# Altium integrated library Altera FLEX 8000.IntLib: 65 symbols (part 4 of 5)
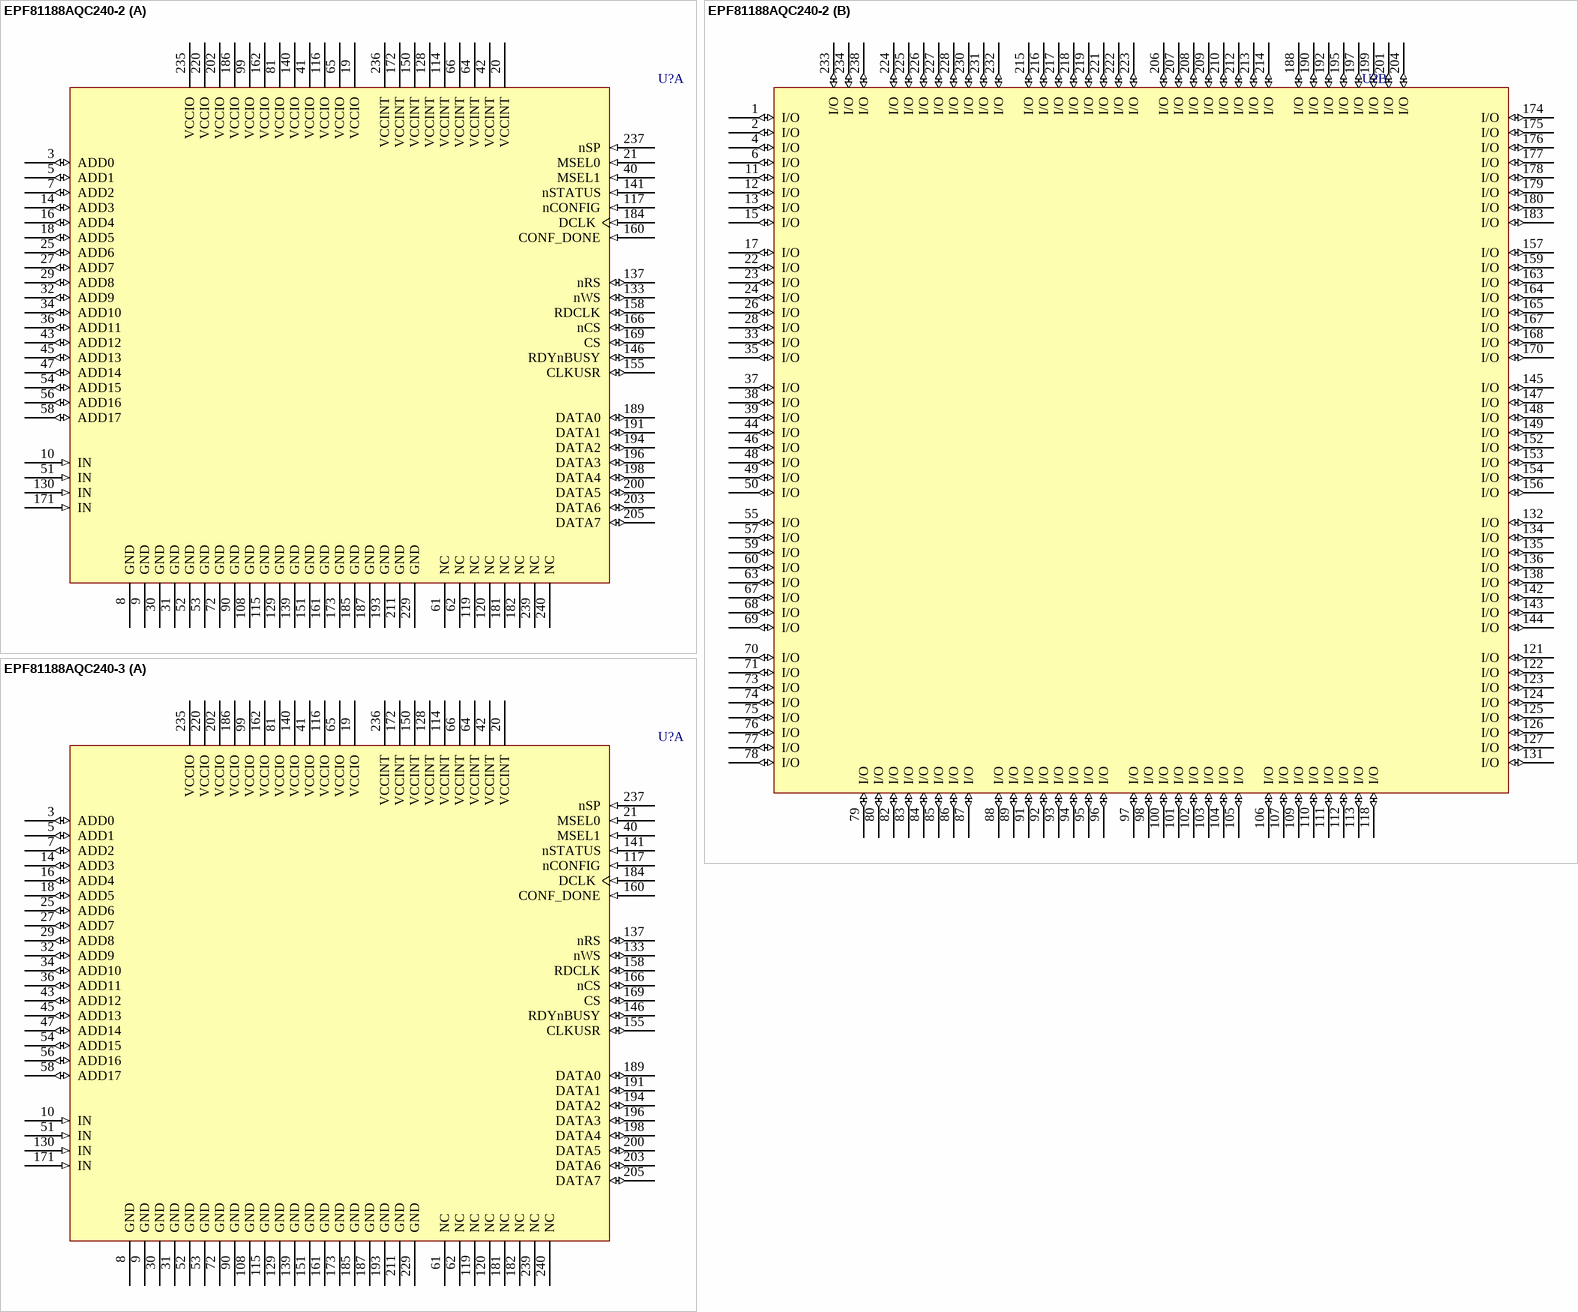
[diagram p42: symbols EPF81188AQC240-2 to EPF81188AQC240-3]

## EPF81188AQC240-2
designator U?
FLEX EPF81188A 5.0V PLD, 184 User IO Pins, 240-Pin PQFP, Speed Grade 2, Commercial Grade; Published: 24-Nov-2000; LatestRevisionDate: 13-Apr-2006; LatestRevisionNote: IPC-7351 Footprint Added.; DatasheetVersion: ver11.1, Jan-2003; PackageVersion: ver15.4, Dec-2008; PackageReference: PQFP240; Publisher: Altium Limited; PackageDescription: 240-Pin Plastic Quad Flat Pack (PQFP240) - Wire Bond; Code_JEDEC: MS-029-GA; ComponentLink1Description: Manufacturer Link; ComponentLink1URL: http://www.altera.com/products/devices/flex8k/f8k-index.html; ComponentLink2Description: Datasheet; ComponentLink2URL: http://www.altera.com/literature/ds/dsf8k.pdf
footprint PQFP240_N (Shrink QFP, 240-Leads, Body 32x32mm, Pitch 0.5mm, IPC Medium Density)
footprint PQFP240_L (Shrink QFP, 240-Leads, Body 32x32mm, Pitch 0.5mm, IPC High Density)
footprint PQFP240_M (Shrink QFP, 240-Leads, Body 32x32mm, Pitch 0.5mm, IPC Low Density)
3D model EPF81188A-PQFP240 (240-Pin Plastic Quad Flat Pack (PQFP240) - Wire Bond)
part A pins: 3 ADD0 (io), 5 ADD1 (io), 7 ADD2 (io), 8 GND (power), 9 GND (power), 10 IN (in), 14 ADD3 (io), 16 ADD4 (io), 18 ADD5 (io), 19 VCCIO (power), 20 VCCINT (power), 21 MSEL0 (in), 25 ADD6 (io), 27 ADD7 (io), 29 ADD8 (io), 30 GND (power), 31 GND (power), 32 ADD9 (io), 34 ADD10 (io), 36 ADD11 (io), 40 MSEL1 (in), 41 VCCIO (power), 42 VCCINT (power), 43 ADD12 (io), 45 ADD13 (io), 47 ADD14 (io), 51 IN (in), 52 GND (power), 53 GND (power), 54 ADD15 (io), 56 ADD16 (io), 58 ADD17 (io), 61 NC, 62 NC, 64 VCCINT (power), 65 VCCIO (power), 66 VCCINT (power), 72 GND (power), 81 VCCIO (power), 90 GND (power), 99 VCCIO (power), 108 GND (power), 114 VCCINT (power), 115 GND (power), 116 VCCIO (power), 117 nCONFIG (in), 119 NC, 120 NC, 128 VCCINT (power), 129 GND (power), 130 IN (in), 133 nWS (io), 137 nRS (io), 139 GND (power), 140 VCCIO (power), 141 nSTATUS (in), 146 RDYnBUSY (io), 150 VCCINT (power), 151 GND (power), 155 CLKUSR (io), 158 RDCLK (io), 160 CONF_DONE (in), 161 GND (power), 162 VCCIO (power), 166 nCS (io), 169 CS (io), 171 IN (in), 172 VCCINT (power), 173 GND (power), 181 NC, 182 NC, 184 DCLK (in), 185 GND (power), 186 VCCIO (power), 187 GND (power), 189 DATA0 (io), 191 DATA1 (io), 193 GND (power), 194 DATA2 (io), 196 DATA3 (io), 198 DATA4 (io), 200 DATA5 (io), 202 VCCIO (power), 203 DATA6 (io), 205 DATA7 (io), 211 GND (power), 220 VCCIO (power), 229 GND (power), 235 VCCIO (power), 236 VCCINT (power), 237 nSP (in), 239 NC, 240 NC
part B pins: 1 I/O (io), 2 I/O (io), 4 I/O (io), 6 I/O (io), 11 I/O (io), 12 I/O (io), 13 I/O (io), 15 I/O (io), 17 I/O (io), 22 I/O (io), 23 I/O (io), 24 I/O (io), 26 I/O (io), 28 I/O (io), 33 I/O (io), 35 I/O (io), 37 I/O (io), 38 I/O (io), 39 I/O (io), 44 I/O (io), 46 I/O (io), 48 I/O (io), 49 I/O (io), 50 I/O (io), 55 I/O (io), 57 I/O (io), 59 I/O (io), 60 I/O (io), 63 I/O (io), 67 I/O (io), 68 I/O (io), 69 I/O (io), 70 I/O (io), 71 I/O (io), 73 I/O (io), 74 I/O (io), 75 I/O (io), 76 I/O (io), 77 I/O (io), 78 I/O (io), 79 I/O (io), 80 I/O (io), 82 I/O (io), 83 I/O (io), 84 I/O (io), 85 I/O (io), 86 I/O (io), 87 I/O (io), 88 I/O (io), 89 I/O (io), 91 I/O (io), 92 I/O (io), 93 I/O (io), 94 I/O (io), 95 I/O (io), 96 I/O (io), 97 I/O (io), 98 I/O (io), 100 I/O (io), 101 I/O (io), 102 I/O (io), 103 I/O (io), 104 I/O (io), 105 I/O (io), 106 I/O (io), 107 I/O (io), 109 I/O (io), 110 I/O (io), 111 I/O (io), 112 I/O (io), 113 I/O (io), 118 I/O (io), 121 I/O (io), 122 I/O (io), 123 I/O (io), 124 I/O (io), 125 I/O (io), 126 I/O (io), 127 I/O (io), 131 I/O (io), 132 I/O (io), 134 I/O (io), 135 I/O (io), 136 I/O (io), 138 I/O (io), 142 I/O (io), 143 I/O (io), 144 I/O (io), 145 I/O (io), 147 I/O (io), 148 I/O (io), 149 I/O (io), 152 I/O (io), 153 I/O (io), 154 I/O (io), 156 I/O (io), 157 I/O (io), 159 I/O (io), 163 I/O (io), 164 I/O (io), 165 I/O (io), 167 I/O (io), 168 I/O (io), 170 I/O (io), 174 I/O (io), 175 I/O (io), 176 I/O (io), 177 I/O (io), 178 I/O (io), 179 I/O (io), 180 I/O (io), 183 I/O (io), 188 I/O (io), 190 I/O (io), 192 I/O (io), 195 I/O (io), 197 I/O (io), 199 I/O (io), 201 I/O (io), 204 I/O (io), 206 I/O (io), 207 I/O (io), 208 I/O (io), 209 I/O (io), 210 I/O (io), 212 I/O (io), 213 I/O (io), 214 I/O (io), 215 I/O (io), 216 I/O (io), 217 I/O (io), 218 I/O (io), 219 I/O (io), 221 I/O (io), 222 I/O (io), 223 I/O (io), 224 I/O (io), 225 I/O (io), 226 I/O (io), 227 I/O (io), 228 I/O (io), 230 I/O (io), 231 I/O (io), 232 I/O (io), 233 I/O (io), 234 I/O (io), 238 I/O (io)

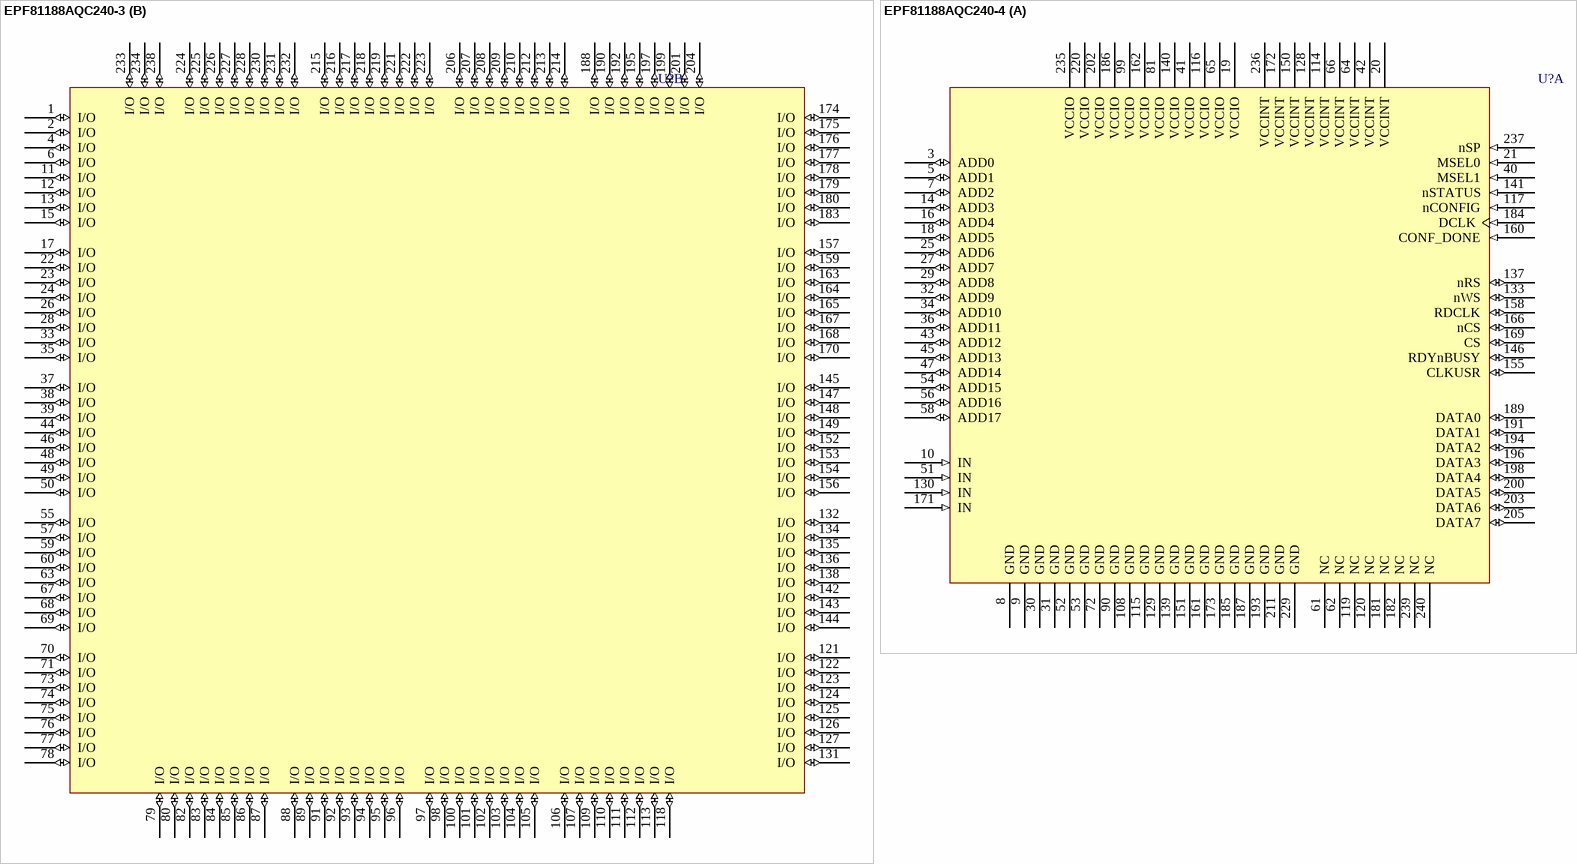
[diagram p22: symbols EPF81188AQC240-3 to EPF81188AQC240-4]

## EPF81188AQC240-3
designator U?
FLEX EPF81188A 5.0V PLD, 184 User IO Pins, 240-Pin PQFP, Speed Grade 3, Commercial Grade; Published: 24-Nov-2000; LatestRevisionDate: 13-Apr-2006; LatestRevisionNote: IPC-7351 Footprint Added.; DatasheetVersion: ver11.1, Jan-2003; PackageVersion: ver15.4, Dec-2008; PackageReference: PQFP240; Publisher: Altium Limited; PackageDescription: 240-Pin Plastic Quad Flat Pack (PQFP240) - Wire Bond; Code_JEDEC: MS-029-GA; ComponentLink1Description: Manufacturer Link; ComponentLink1URL: http://www.altera.com/products/devices/flex8k/f8k-index.html; ComponentLink2Description: Datasheet; ComponentLink2URL: http://www.altera.com/literature/ds/dsf8k.pdf
footprint PQFP240_N (Shrink QFP, 240-Leads, Body 32x32mm, Pitch 0.5mm, IPC Medium Density)
footprint PQFP240_L (Shrink QFP, 240-Leads, Body 32x32mm, Pitch 0.5mm, IPC High Density)
footprint PQFP240_M (Shrink QFP, 240-Leads, Body 32x32mm, Pitch 0.5mm, IPC Low Density)
3D model EPF81188A-PQFP240 (240-Pin Plastic Quad Flat Pack (PQFP240) - Wire Bond)
part A pins: 3 ADD0 (io), 5 ADD1 (io), 7 ADD2 (io), 8 GND (power), 9 GND (power), 10 IN (in), 14 ADD3 (io), 16 ADD4 (io), 18 ADD5 (io), 19 VCCIO (power), 20 VCCINT (power), 21 MSEL0 (in), 25 ADD6 (io), 27 ADD7 (io), 29 ADD8 (io), 30 GND (power), 31 GND (power), 32 ADD9 (io), 34 ADD10 (io), 36 ADD11 (io), 40 MSEL1 (in), 41 VCCIO (power), 42 VCCINT (power), 43 ADD12 (io), 45 ADD13 (io), 47 ADD14 (io), 51 IN (in), 52 GND (power), 53 GND (power), 54 ADD15 (io), 56 ADD16 (io), 58 ADD17 (io), 61 NC, 62 NC, 64 VCCINT (power), 65 VCCIO (power), 66 VCCINT (power), 72 GND (power), 81 VCCIO (power), 90 GND (power), 99 VCCIO (power), 108 GND (power), 114 VCCINT (power), 115 GND (power), 116 VCCIO (power), 117 nCONFIG (in), 119 NC, 120 NC, 128 VCCINT (power), 129 GND (power), 130 IN (in), 133 nWS (io), 137 nRS (io), 139 GND (power), 140 VCCIO (power), 141 nSTATUS (in), 146 RDYnBUSY (io), 150 VCCINT (power), 151 GND (power), 155 CLKUSR (io), 158 RDCLK (io), 160 CONF_DONE (in), 161 GND (power), 162 VCCIO (power), 166 nCS (io), 169 CS (io), 171 IN (in), 172 VCCINT (power), 173 GND (power), 181 NC, 182 NC, 184 DCLK (in), 185 GND (power), 186 VCCIO (power), 187 GND (power), 189 DATA0 (io), 191 DATA1 (io), 193 GND (power), 194 DATA2 (io), 196 DATA3 (io), 198 DATA4 (io), 200 DATA5 (io), 202 VCCIO (power), 203 DATA6 (io), 205 DATA7 (io), 211 GND (power), 220 VCCIO (power), 229 GND (power), 235 VCCIO (power), 236 VCCINT (power), 237 nSP (in), 239 NC, 240 NC
part B pins: 1 I/O (io), 2 I/O (io), 4 I/O (io), 6 I/O (io), 11 I/O (io), 12 I/O (io), 13 I/O (io), 15 I/O (io), 17 I/O (io), 22 I/O (io), 23 I/O (io), 24 I/O (io), 26 I/O (io), 28 I/O (io), 33 I/O (io), 35 I/O (io), 37 I/O (io), 38 I/O (io), 39 I/O (io), 44 I/O (io), 46 I/O (io), 48 I/O (io), 49 I/O (io), 50 I/O (io), 55 I/O (io), 57 I/O (io), 59 I/O (io), 60 I/O (io), 63 I/O (io), 67 I/O (io), 68 I/O (io), 69 I/O (io), 70 I/O (io), 71 I/O (io), 73 I/O (io), 74 I/O (io), 75 I/O (io), 76 I/O (io), 77 I/O (io), 78 I/O (io), 79 I/O (io), 80 I/O (io), 82 I/O (io), 83 I/O (io), 84 I/O (io), 85 I/O (io), 86 I/O (io), 87 I/O (io), 88 I/O (io), 89 I/O (io), 91 I/O (io), 92 I/O (io), 93 I/O (io), 94 I/O (io), 95 I/O (io), 96 I/O (io), 97 I/O (io), 98 I/O (io), 100 I/O (io), 101 I/O (io), 102 I/O (io), 103 I/O (io), 104 I/O (io), 105 I/O (io), 106 I/O (io), 107 I/O (io), 109 I/O (io), 110 I/O (io), 111 I/O (io), 112 I/O (io), 113 I/O (io), 118 I/O (io), 121 I/O (io), 122 I/O (io), 123 I/O (io), 124 I/O (io), 125 I/O (io), 126 I/O (io), 127 I/O (io), 131 I/O (io), 132 I/O (io), 134 I/O (io), 135 I/O (io), 136 I/O (io), 138 I/O (io), 142 I/O (io), 143 I/O (io), 144 I/O (io), 145 I/O (io), 147 I/O (io), 148 I/O (io), 149 I/O (io), 152 I/O (io), 153 I/O (io), 154 I/O (io), 156 I/O (io), 157 I/O (io), 159 I/O (io), 163 I/O (io), 164 I/O (io), 165 I/O (io), 167 I/O (io), 168 I/O (io), 170 I/O (io), 174 I/O (io), 175 I/O (io), 176 I/O (io), 177 I/O (io), 178 I/O (io), 179 I/O (io), 180 I/O (io), 183 I/O (io), 188 I/O (io), 190 I/O (io), 192 I/O (io), 195 I/O (io), 197 I/O (io), 199 I/O (io), 201 I/O (io), 204 I/O (io), 206 I/O (io), 207 I/O (io), 208 I/O (io), 209 I/O (io), 210 I/O (io), 212 I/O (io), 213 I/O (io), 214 I/O (io), 215 I/O (io), 216 I/O (io), 217 I/O (io), 218 I/O (io), 219 I/O (io), 221 I/O (io), 222 I/O (io), 223 I/O (io), 224 I/O (io), 225 I/O (io), 226 I/O (io), 227 I/O (io), 228 I/O (io), 230 I/O (io), 231 I/O (io), 232 I/O (io), 233 I/O (io), 234 I/O (io), 238 I/O (io)

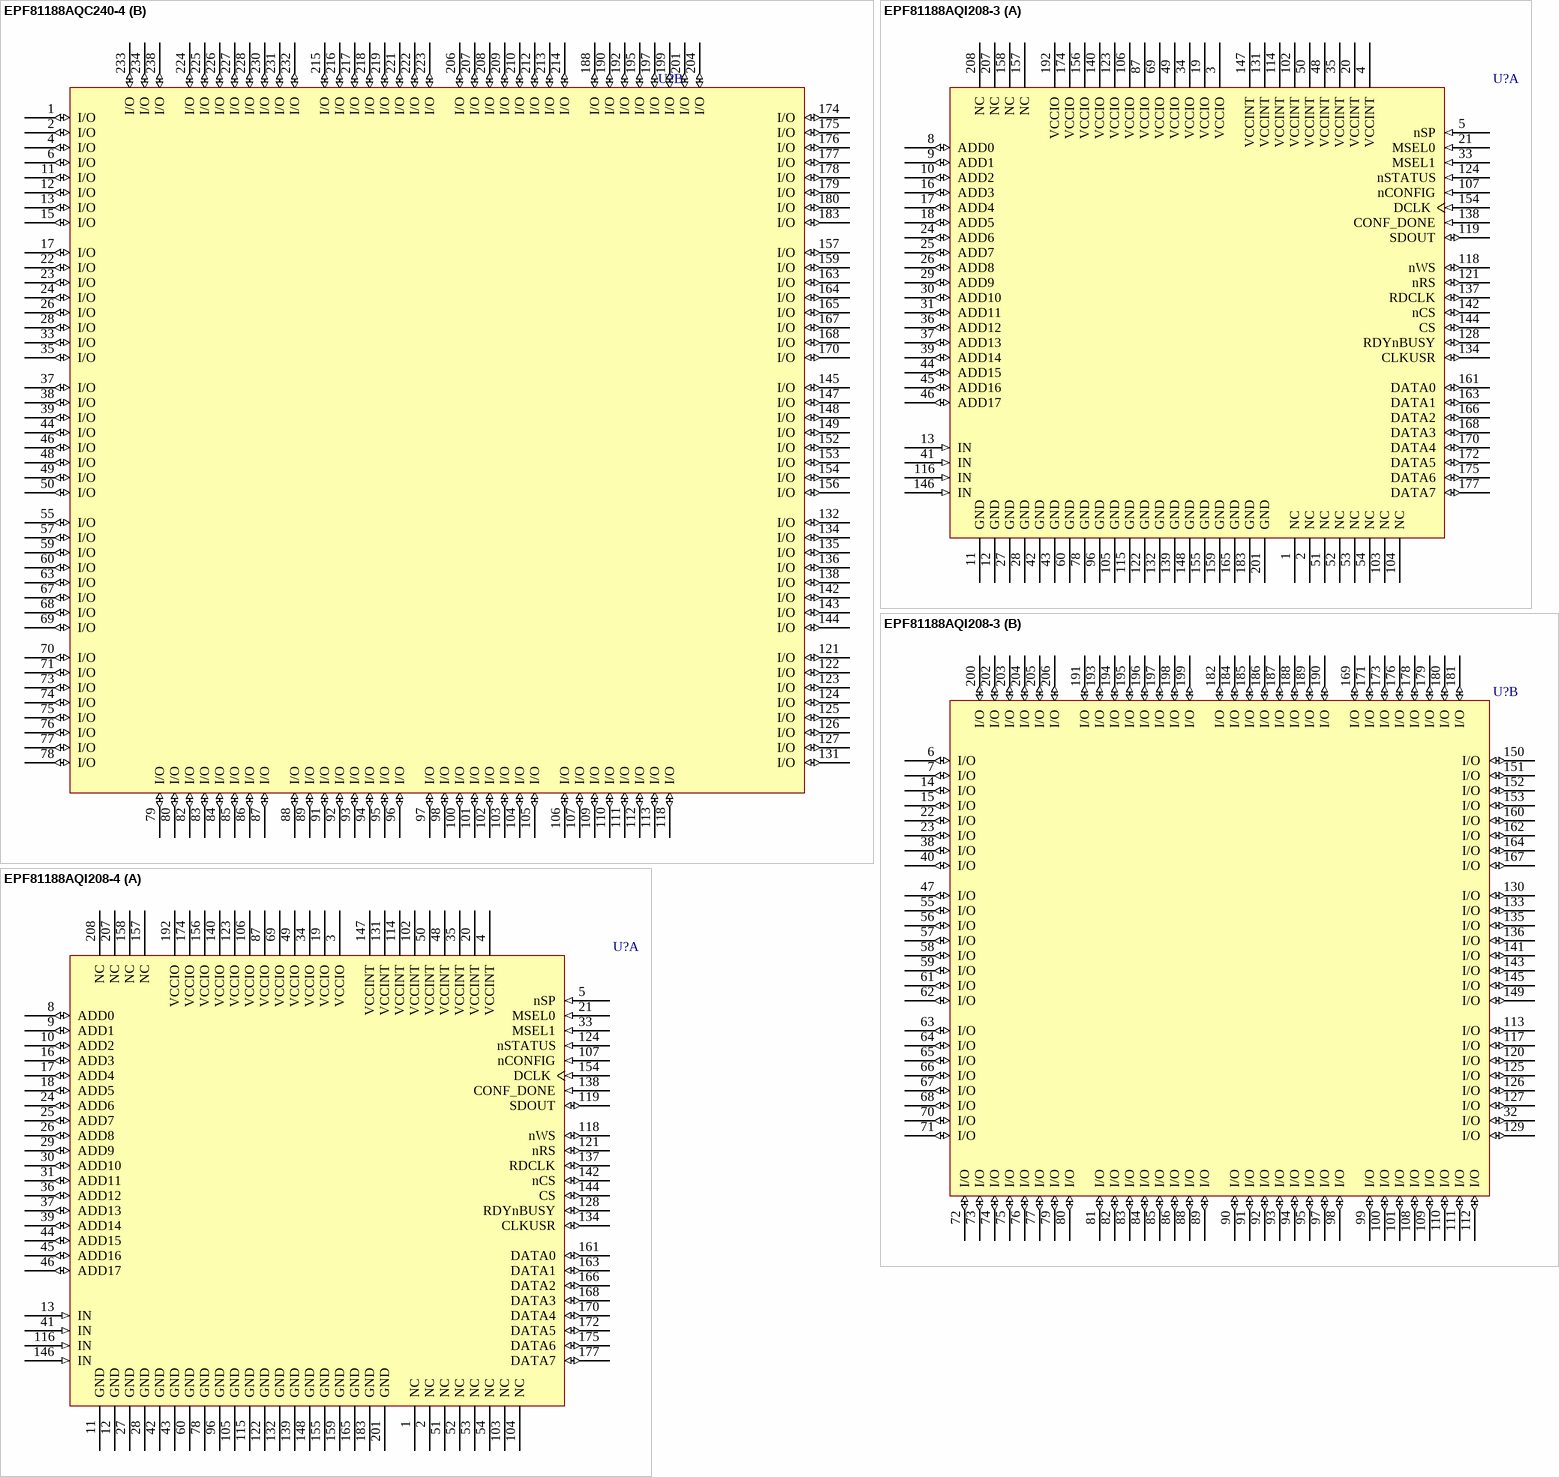
[diagram p23: symbols EPF81188AQC240-4 to EPF81188AQI208-4]

## EPF81188AQC240-4
designator U?
FLEX EPF81188A 5.0V PLD, 184 User IO Pins, 240-Pin PQFP, Speed Grade 4, Commercial Grade; Published: 24-Nov-2000; LatestRevisionDate: 13-Apr-2006; LatestRevisionNote: IPC-7351 Footprint Added.; DatasheetVersion: ver11.1, Jan-2003; PackageVersion: ver15.4, Dec-2008; PackageReference: PQFP240; Publisher: Altium Limited; PackageDescription: 240-Pin Plastic Quad Flat Pack (PQFP240) - Wire Bond; Code_JEDEC: MS-029-GA; ComponentLink1Description: Manufacturer Link; ComponentLink1URL: http://www.altera.com/products/devices/flex8k/f8k-index.html; ComponentLink2Description: Datasheet; ComponentLink2URL: http://www.altera.com/literature/ds/dsf8k.pdf
footprint PQFP240_N (Shrink QFP, 240-Leads, Body 32x32mm, Pitch 0.5mm, IPC Medium Density)
footprint PQFP240_L (Shrink QFP, 240-Leads, Body 32x32mm, Pitch 0.5mm, IPC High Density)
footprint PQFP240_M (Shrink QFP, 240-Leads, Body 32x32mm, Pitch 0.5mm, IPC Low Density)
3D model EPF81188A-PQFP240 (240-Pin Plastic Quad Flat Pack (PQFP240) - Wire Bond)
part A pins: 3 ADD0 (io), 5 ADD1 (io), 7 ADD2 (io), 8 GND (power), 9 GND (power), 10 IN (in), 14 ADD3 (io), 16 ADD4 (io), 18 ADD5 (io), 19 VCCIO (power), 20 VCCINT (power), 21 MSEL0 (in), 25 ADD6 (io), 27 ADD7 (io), 29 ADD8 (io), 30 GND (power), 31 GND (power), 32 ADD9 (io), 34 ADD10 (io), 36 ADD11 (io), 40 MSEL1 (in), 41 VCCIO (power), 42 VCCINT (power), 43 ADD12 (io), 45 ADD13 (io), 47 ADD14 (io), 51 IN (in), 52 GND (power), 53 GND (power), 54 ADD15 (io), 56 ADD16 (io), 58 ADD17 (io), 61 NC, 62 NC, 64 VCCINT (power), 65 VCCIO (power), 66 VCCINT (power), 72 GND (power), 81 VCCIO (power), 90 GND (power), 99 VCCIO (power), 108 GND (power), 114 VCCINT (power), 115 GND (power), 116 VCCIO (power), 117 nCONFIG (in), 119 NC, 120 NC, 128 VCCINT (power), 129 GND (power), 130 IN (in), 133 nWS (io), 137 nRS (io), 139 GND (power), 140 VCCIO (power), 141 nSTATUS (in), 146 RDYnBUSY (io), 150 VCCINT (power), 151 GND (power), 155 CLKUSR (io), 158 RDCLK (io), 160 CONF_DONE (in), 161 GND (power), 162 VCCIO (power), 166 nCS (io), 169 CS (io), 171 IN (in), 172 VCCINT (power), 173 GND (power), 181 NC, 182 NC, 184 DCLK (in), 185 GND (power), 186 VCCIO (power), 187 GND (power), 189 DATA0 (io), 191 DATA1 (io), 193 GND (power), 194 DATA2 (io), 196 DATA3 (io), 198 DATA4 (io), 200 DATA5 (io), 202 VCCIO (power), 203 DATA6 (io), 205 DATA7 (io), 211 GND (power), 220 VCCIO (power), 229 GND (power), 235 VCCIO (power), 236 VCCINT (power), 237 nSP (in), 239 NC, 240 NC
part B pins: 1 I/O (io), 2 I/O (io), 4 I/O (io), 6 I/O (io), 11 I/O (io), 12 I/O (io), 13 I/O (io), 15 I/O (io), 17 I/O (io), 22 I/O (io), 23 I/O (io), 24 I/O (io), 26 I/O (io), 28 I/O (io), 33 I/O (io), 35 I/O (io), 37 I/O (io), 38 I/O (io), 39 I/O (io), 44 I/O (io), 46 I/O (io), 48 I/O (io), 49 I/O (io), 50 I/O (io), 55 I/O (io), 57 I/O (io), 59 I/O (io), 60 I/O (io), 63 I/O (io), 67 I/O (io), 68 I/O (io), 69 I/O (io), 70 I/O (io), 71 I/O (io), 73 I/O (io), 74 I/O (io), 75 I/O (io), 76 I/O (io), 77 I/O (io), 78 I/O (io), 79 I/O (io), 80 I/O (io), 82 I/O (io), 83 I/O (io), 84 I/O (io), 85 I/O (io), 86 I/O (io), 87 I/O (io), 88 I/O (io), 89 I/O (io), 91 I/O (io), 92 I/O (io), 93 I/O (io), 94 I/O (io), 95 I/O (io), 96 I/O (io), 97 I/O (io), 98 I/O (io), 100 I/O (io), 101 I/O (io), 102 I/O (io), 103 I/O (io), 104 I/O (io), 105 I/O (io), 106 I/O (io), 107 I/O (io), 109 I/O (io), 110 I/O (io), 111 I/O (io), 112 I/O (io), 113 I/O (io), 118 I/O (io), 121 I/O (io), 122 I/O (io), 123 I/O (io), 124 I/O (io), 125 I/O (io), 126 I/O (io), 127 I/O (io), 131 I/O (io), 132 I/O (io), 134 I/O (io), 135 I/O (io), 136 I/O (io), 138 I/O (io), 142 I/O (io), 143 I/O (io), 144 I/O (io), 145 I/O (io), 147 I/O (io), 148 I/O (io), 149 I/O (io), 152 I/O (io), 153 I/O (io), 154 I/O (io), 156 I/O (io), 157 I/O (io), 159 I/O (io), 163 I/O (io), 164 I/O (io), 165 I/O (io), 167 I/O (io), 168 I/O (io), 170 I/O (io), 174 I/O (io), 175 I/O (io), 176 I/O (io), 177 I/O (io), 178 I/O (io), 179 I/O (io), 180 I/O (io), 183 I/O (io), 188 I/O (io), 190 I/O (io), 192 I/O (io), 195 I/O (io), 197 I/O (io), 199 I/O (io), 201 I/O (io), 204 I/O (io), 206 I/O (io), 207 I/O (io), 208 I/O (io), 209 I/O (io), 210 I/O (io), 212 I/O (io), 213 I/O (io), 214 I/O (io), 215 I/O (io), 216 I/O (io), 217 I/O (io), 218 I/O (io), 219 I/O (io), 221 I/O (io), 222 I/O (io), 223 I/O (io), 224 I/O (io), 225 I/O (io), 226 I/O (io), 227 I/O (io), 228 I/O (io), 230 I/O (io), 231 I/O (io), 232 I/O (io), 233 I/O (io), 234 I/O (io), 238 I/O (io)

## EPF81188AQI208-3
designator U?
FLEX EPF81188A 5.0V PLD, 148 User IO Pins, 208-Pin PQFP, Speed Grade 3, Industrial Grade; ComponentAvailability: Obsolete; Published: 24-Nov-2000; LatestRevisionDate: 13-Apr-2006; LatestRevisionNote: IPC-7351 Footprint Added.; DatasheetVersion: Jun-1999; PackageVersion: ver15.4, Dec-2008; PackageReference: PQFP208; Publisher: Altium Limited; PackageDescription: 208-Pin Plastic Quad Flat Pack (PQFP208) - Wire Bond; Code_JEDEC: MS-029-FA-1; ComponentLink1Description: Manufacturer Link; ComponentLink1URL: http://www.altera.com/products/devices/flex8k/f8k-index.html; ComponentLink2Description: Datasheet; ComponentLink2URL: http://www.altera.com/literature/ds/dsf8k.pdf; ComponentLink3Description: Discontinuation Notice; ComponentLink3URL: http://www.altera.com/literature/pcn/pdn0314.pdf
footprint PQFP208_N (Shrink QFP, 208-Leads, Body 28x28mm, Pitch 0.5mm, IPC Medium Density)
footprint PQFP208_L (Shrink QFP, 208-Leads, Body 28x28mm, Pitch 0.5mm, IPC High Density)
footprint PQFP208_M (Shrink QFP, 208-Leads, Body 28x28mm, Pitch 0.5mm, IPC Low Density)
3D model EPF81188A-PQFP208 (208-Pin Plastic Quad Flat Pack (PQFP208) - Wire Bond)
part A pins: 1 NC, 2 NC, 3 VCCIO (power), 4 VCCINT (power), 5 nSP (in), 8 ADD0 (io), 9 ADD1 (io), 10 ADD2 (io), 11 GND (power), 12 GND (power), 13 IN (in), 16 ADD3 (io), 17 ADD4 (io), 18 ADD5 (io), 19 VCCIO (power), 20 VCCINT (power), 21 MSEL0 (in), 24 ADD6 (io), 25 ADD7 (io), 26 ADD8 (io), 27 GND (power), 28 GND (power), 29 ADD9 (io), 30 ADD10 (io), 31 ADD11 (io), 33 MSEL1 (in), 34 VCCIO (power), 35 VCCINT (power), 36 ADD12 (io), 37 ADD13 (io), 39 ADD14 (io), 41 IN (in), 42 GND (power), 43 GND (power), 44 ADD15 (io), 45 ADD16 (io), 46 ADD17 (io), 48 VCCINT (power), 49 VCCIO (power), 50 VCCINT (power), 51 NC, 52 NC, 53 NC, 54 NC, 60 GND (power), 69 VCCIO (power), 78 GND (power), 87 VCCIO (power), 96 GND (power), 102 VCCINT (power), 103 NC, 104 NC, 105 GND (power), 106 VCCIO (power), 107 nCONFIG (in), 114 VCCINT (power), 115 GND (power), 116 IN (in), 118 nWS (io), 119 SDOUT (io), 121 nRS (io), 122 GND (power), 123 VCCIO (power), 124 nSTATUS (in), 128 RDYnBUSY (io), 131 VCCINT (power), 132 GND (power), 134 CLKUSR (io), 137 RDCLK (io), 138 CONF_DONE (in), 139 GND (power), 140 VCCIO (power), 142 nCS (io), 144 CS (io), 146 IN (in), 147 VCCINT (power), 148 GND (power), 154 DCLK (in), 155 GND (power), 156 VCCIO (power), 157 NC, 158 NC, 159 GND (power), 161 DATA0 (io), 163 DATA1 (io), 165 GND (power), 166 DATA2 (io), 168 DATA3 (io), 170 DATA4 (io), 172 DATA5 (io), 174 VCCIO (power), 175 DATA6 (io), 177 DATA7 (io), 183 GND (power), 192 VCCIO (power), 201 GND (power), 207 NC, 208 NC
part B pins: 6 I/O (io), 7 I/O (io), 14 I/O (io), 15 I/O (io), 22 I/O (io), 23 I/O (io), 32 I/O (io), 38 I/O (io), 40 I/O (io), 47 I/O (io), 55 I/O (io), 56 I/O (io), 57 I/O (io), 58 I/O (io), 59 I/O (io), 61 I/O (io), 62 I/O (io), 63 I/O (io), 64 I/O (io), 65 I/O (io), 66 I/O (io), 67 I/O (io), 68 I/O (io), 70 I/O (io), 71 I/O (io), 72 I/O (io), 73 I/O (io), 74 I/O (io), 75 I/O (io), 76 I/O (io), 77 I/O (io), 79 I/O (io), 80 I/O (io), 81 I/O (io), 82 I/O (io), 83 I/O (io), 84 I/O (io), 85 I/O (io), 86 I/O (io), 88 I/O (io), 89 I/O (io), 90 I/O (io), 91 I/O (io), 92 I/O (io), 93 I/O (io), 94 I/O (io), 95 I/O (io), 97 I/O (io), 98 I/O (io), 99 I/O (io), 100 I/O (io), 101 I/O (io), 108 I/O (io), 109 I/O (io), 110 I/O (io), 111 I/O (io), 112 I/O (io), 113 I/O (io), 117 I/O (io), 120 I/O (io), 125 I/O (io), 126 I/O (io), 127 I/O (io), 129 I/O (io), 130 I/O (io), 133 I/O (io), 135 I/O (io), 136 I/O (io), 141 I/O (io), 143 I/O (io), 145 I/O (io), 149 I/O (io), 150 I/O (io), 151 I/O (io), 152 I/O (io), 153 I/O (io), 160 I/O (io), 162 I/O (io), 164 I/O (io), 167 I/O (io), 169 I/O (io), 171 I/O (io), 173 I/O (io), 176 I/O (io), 178 I/O (io), 179 I/O (io), 180 I/O (io), 181 I/O (io), 182 I/O (io), 184 I/O (io), 185 I/O (io), 186 I/O (io), 187 I/O (io), 188 I/O (io), 189 I/O (io), 190 I/O (io), 191 I/O (io), 193 I/O (io), 194 I/O (io), 195 I/O (io), 196 I/O (io), 197 I/O (io), 198 I/O (io), 199 I/O (io), 200 I/O (io), 202 I/O (io), 203 I/O (io), 204 I/O (io), 205 I/O (io), 206 I/O (io)

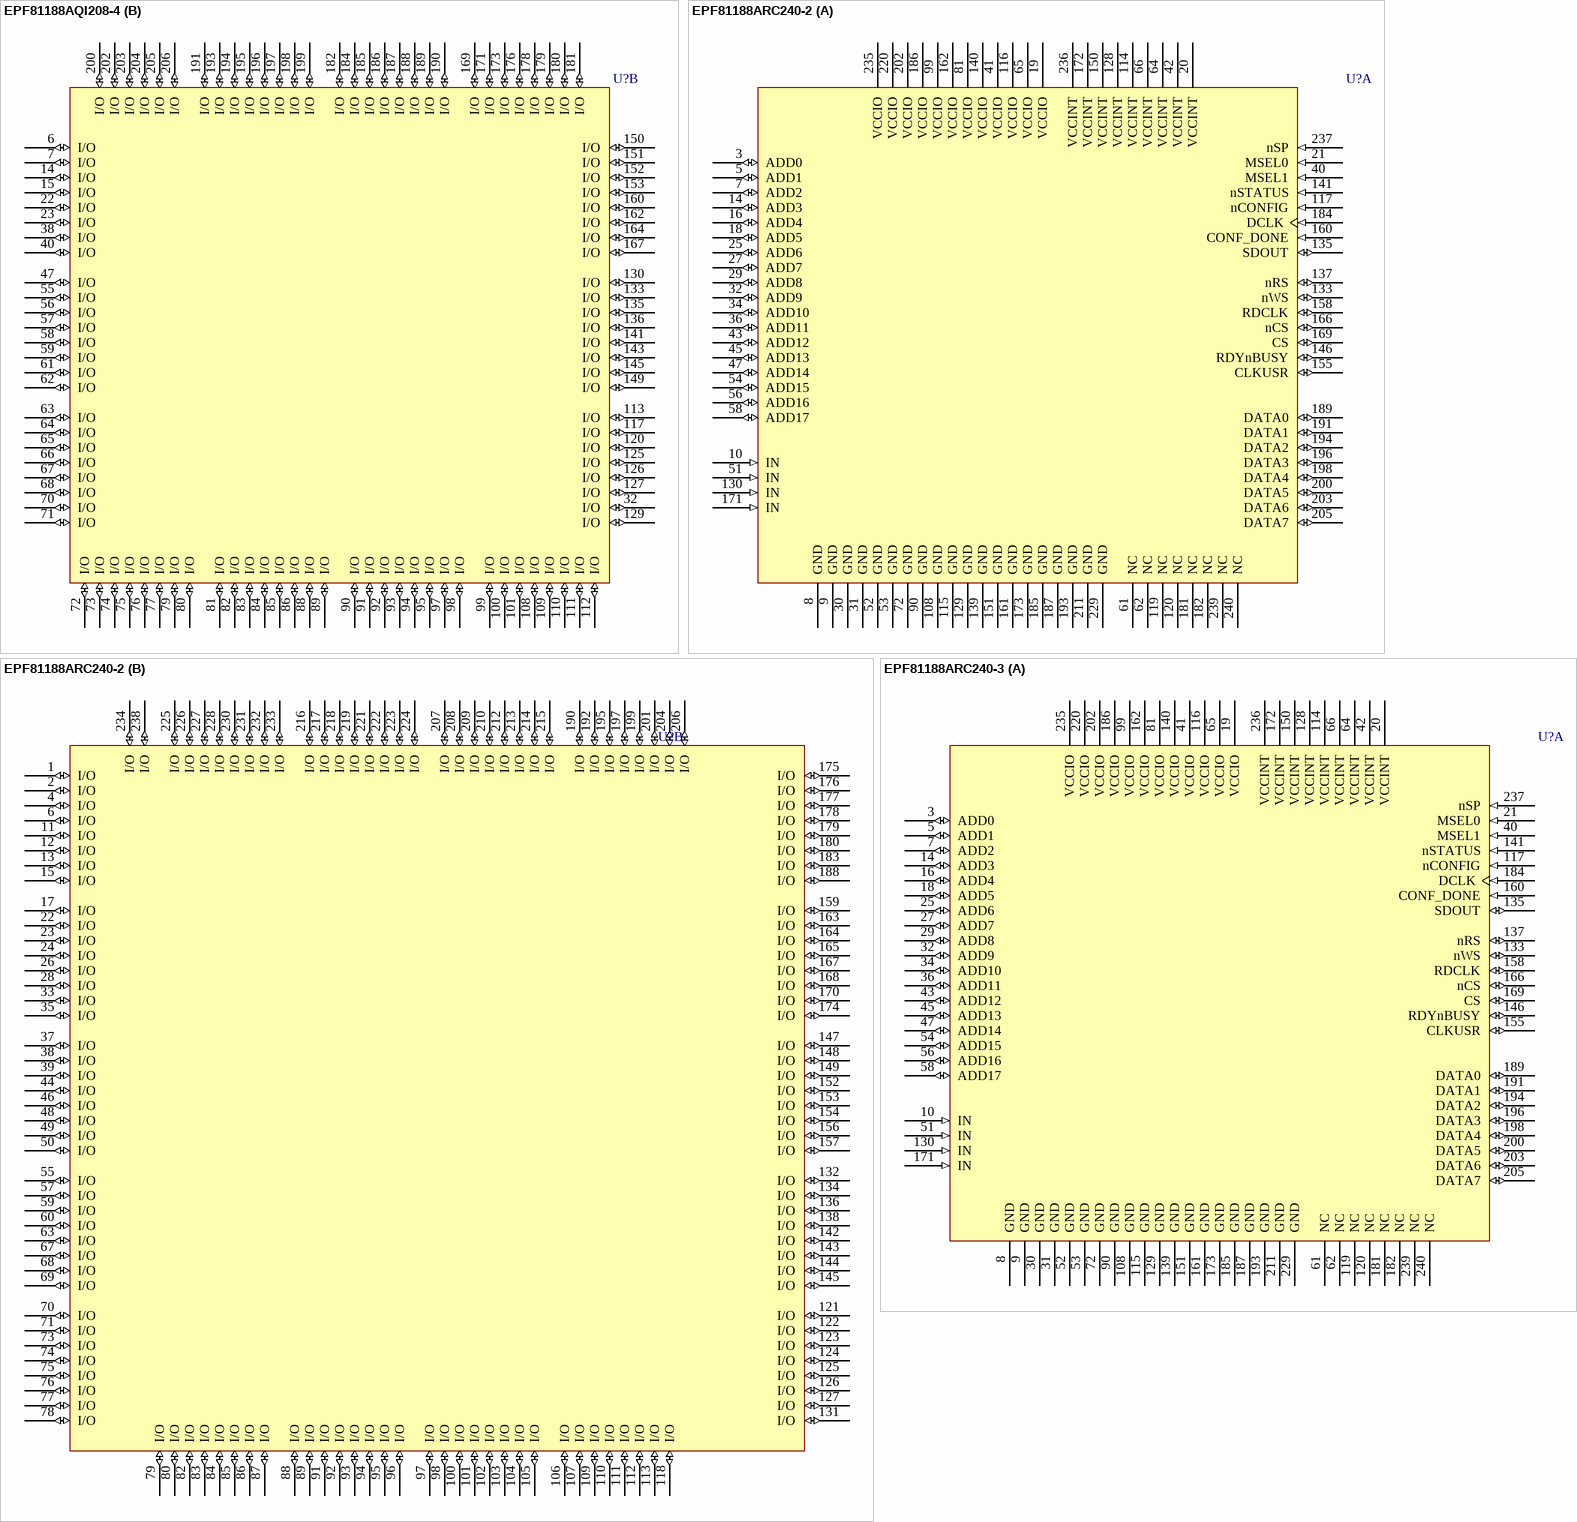
[diagram p24: symbols EPF81188AQI208-4 to EPF81188ARC240-3]

## EPF81188AQI208-4
designator U?
FLEX EPF81188A 5.0V PLD, 148 User IO Pins, 208-Pin PQFP, Speed Grade 4, Industrial Grade; Published: 24-Nov-2000; LatestRevisionDate: 13-Apr-2006; LatestRevisionNote: IPC-7351 Footprint Added.; DatasheetVersion: ver11.1, Jan-2003; PackageVersion: ver15.4, Dec-2008; PackageReference: PQFP208; Publisher: Altium Limited; PackageDescription: 208-Pin Plastic Quad Flat Pack (PQFP208) - Wire Bond; Code_JEDEC: MS-029-FA-1; ComponentLink1Description: Manufacturer Link; ComponentLink1URL: http://www.altera.com/products/devices/flex8k/f8k-index.html; ComponentLink2Description: Datasheet; ComponentLink2URL: http://www.altera.com/literature/ds/dsf8k.pdf
footprint PQFP208_N (Shrink QFP, 208-Leads, Body 28x28mm, Pitch 0.5mm, IPC Medium Density)
footprint PQFP208_L (Shrink QFP, 208-Leads, Body 28x28mm, Pitch 0.5mm, IPC High Density)
footprint PQFP208_M (Shrink QFP, 208-Leads, Body 28x28mm, Pitch 0.5mm, IPC Low Density)
3D model EPF81188A-PQFP208 (208-Pin Plastic Quad Flat Pack (PQFP208) - Wire Bond)
part A pins: 1 NC, 2 NC, 3 VCCIO (power), 4 VCCINT (power), 5 nSP (in), 8 ADD0 (io), 9 ADD1 (io), 10 ADD2 (io), 11 GND (power), 12 GND (power), 13 IN (in), 16 ADD3 (io), 17 ADD4 (io), 18 ADD5 (io), 19 VCCIO (power), 20 VCCINT (power), 21 MSEL0 (in), 24 ADD6 (io), 25 ADD7 (io), 26 ADD8 (io), 27 GND (power), 28 GND (power), 29 ADD9 (io), 30 ADD10 (io), 31 ADD11 (io), 33 MSEL1 (in), 34 VCCIO (power), 35 VCCINT (power), 36 ADD12 (io), 37 ADD13 (io), 39 ADD14 (io), 41 IN (in), 42 GND (power), 43 GND (power), 44 ADD15 (io), 45 ADD16 (io), 46 ADD17 (io), 48 VCCINT (power), 49 VCCIO (power), 50 VCCINT (power), 51 NC, 52 NC, 53 NC, 54 NC, 60 GND (power), 69 VCCIO (power), 78 GND (power), 87 VCCIO (power), 96 GND (power), 102 VCCINT (power), 103 NC, 104 NC, 105 GND (power), 106 VCCIO (power), 107 nCONFIG (in), 114 VCCINT (power), 115 GND (power), 116 IN (in), 118 nWS (io), 119 SDOUT (io), 121 nRS (io), 122 GND (power), 123 VCCIO (power), 124 nSTATUS (in), 128 RDYnBUSY (io), 131 VCCINT (power), 132 GND (power), 134 CLKUSR (io), 137 RDCLK (io), 138 CONF_DONE (in), 139 GND (power), 140 VCCIO (power), 142 nCS (io), 144 CS (io), 146 IN (in), 147 VCCINT (power), 148 GND (power), 154 DCLK (in), 155 GND (power), 156 VCCIO (power), 157 NC, 158 NC, 159 GND (power), 161 DATA0 (io), 163 DATA1 (io), 165 GND (power), 166 DATA2 (io), 168 DATA3 (io), 170 DATA4 (io), 172 DATA5 (io), 174 VCCIO (power), 175 DATA6 (io), 177 DATA7 (io), 183 GND (power), 192 VCCIO (power), 201 GND (power), 207 NC, 208 NC
part B pins: 6 I/O (io), 7 I/O (io), 14 I/O (io), 15 I/O (io), 22 I/O (io), 23 I/O (io), 32 I/O (io), 38 I/O (io), 40 I/O (io), 47 I/O (io), 55 I/O (io), 56 I/O (io), 57 I/O (io), 58 I/O (io), 59 I/O (io), 61 I/O (io), 62 I/O (io), 63 I/O (io), 64 I/O (io), 65 I/O (io), 66 I/O (io), 67 I/O (io), 68 I/O (io), 70 I/O (io), 71 I/O (io), 72 I/O (io), 73 I/O (io), 74 I/O (io), 75 I/O (io), 76 I/O (io), 77 I/O (io), 79 I/O (io), 80 I/O (io), 81 I/O (io), 82 I/O (io), 83 I/O (io), 84 I/O (io), 85 I/O (io), 86 I/O (io), 88 I/O (io), 89 I/O (io), 90 I/O (io), 91 I/O (io), 92 I/O (io), 93 I/O (io), 94 I/O (io), 95 I/O (io), 97 I/O (io), 98 I/O (io), 99 I/O (io), 100 I/O (io), 101 I/O (io), 108 I/O (io), 109 I/O (io), 110 I/O (io), 111 I/O (io), 112 I/O (io), 113 I/O (io), 117 I/O (io), 120 I/O (io), 125 I/O (io), 126 I/O (io), 127 I/O (io), 129 I/O (io), 130 I/O (io), 133 I/O (io), 135 I/O (io), 136 I/O (io), 141 I/O (io), 143 I/O (io), 145 I/O (io), 149 I/O (io), 150 I/O (io), 151 I/O (io), 152 I/O (io), 153 I/O (io), 160 I/O (io), 162 I/O (io), 164 I/O (io), 167 I/O (io), 169 I/O (io), 171 I/O (io), 173 I/O (io), 176 I/O (io), 178 I/O (io), 179 I/O (io), 180 I/O (io), 181 I/O (io), 182 I/O (io), 184 I/O (io), 185 I/O (io), 186 I/O (io), 187 I/O (io), 188 I/O (io), 189 I/O (io), 190 I/O (io), 191 I/O (io), 193 I/O (io), 194 I/O (io), 195 I/O (io), 196 I/O (io), 197 I/O (io), 198 I/O (io), 199 I/O (io), 200 I/O (io), 202 I/O (io), 203 I/O (io), 204 I/O (io), 205 I/O (io), 206 I/O (io)

## EPF81188ARC240-2
designator U?
FLEX EPF81188A 5.0V PLD, 184 User IO Pins, 240-Pin RQFP, Speed Grade 2, Commercial Grade; Published: 24-Nov-2000; LatestRevisionDate: 13-Apr-2006; LatestRevisionNote: IPC-7351 Footprint Added.; DatasheetVersion: ver11.1, Jan-2003; PackageVersion: ver14.2, Oct-2005; PackageReference: RQFP240; Publisher: Altium Limited; PackageDescription: 240-Pin Power Quad Flat Pack (RQFP240); Code_JEDEC: MS-029-GA; ComponentLink1Description: Manufacturer Link; ComponentLink1URL: http://www.altera.com/products/devices/flex8k/f8k-index.html
footprint RQFP240_N (Shrink QFP, 240-Leads, Body 32x32mm, Pitch 0.5mm, IPC Medium Density)
footprint RQFP240_L (Shrink QFP, 240-Leads, Body 32x32mm, Pitch 0.5mm, IPC High Density)
footprint RQFP240_M (Shrink QFP, 240-Leads, Body 32x32mm, Pitch 0.5mm, IPC Low Density)
3D model EPF81188A-RQFP240 (240-Pin Power Quad Flat Pack (RQFP240))
part A pins: 3 ADD0 (io), 5 ADD1 (io), 7 ADD2 (io), 8 GND (power), 9 GND (power), 10 IN (in), 14 ADD3 (io), 16 ADD4 (io), 18 ADD5 (io), 19 VCCIO (power), 20 VCCINT (power), 21 MSEL0 (in), 25 ADD6 (io), 27 ADD7 (io), 29 ADD8 (io), 30 GND (power), 31 GND (power), 32 ADD9 (io), 34 ADD10 (io), 36 ADD11 (io), 40 MSEL1 (in), 41 VCCIO (power), 42 VCCINT (power), 43 ADD12 (io), 45 ADD13 (io), 47 ADD14 (io), 51 IN (in), 52 GND (power), 53 GND (power), 54 ADD15 (io), 56 ADD16 (io), 58 ADD17 (io), 61 NC, 62 NC, 64 VCCINT (power), 65 VCCIO (power), 66 VCCINT (power), 72 GND (power), 81 VCCIO (power), 90 GND (power), 99 VCCIO (power), 108 GND (power), 114 VCCINT (power), 115 GND (power), 116 VCCIO (power), 117 nCONFIG (in), 119 NC, 120 NC, 128 VCCINT (power), 129 GND (power), 130 IN (in), 133 nWS (io), 135 SDOUT (io), 137 nRS (io), 139 GND (power), 140 VCCIO (power), 141 nSTATUS (in), 146 RDYnBUSY (io), 150 VCCINT (power), 151 GND (power), 155 CLKUSR (io), 158 RDCLK (io), 160 CONF_DONE (in), 161 GND (power), 162 VCCIO (power), 166 nCS (io), 169 CS (io), 171 IN (in), 172 VCCINT (power), 173 GND (power), 181 NC, 182 NC, 184 DCLK (in), 185 GND (power), 186 VCCIO (power), 187 GND (power), 189 DATA0 (io), 191 DATA1 (io), 193 GND (power), 194 DATA2 (io), 196 DATA3 (io), 198 DATA4 (io), 200 DATA5 (io), 202 VCCIO (power), 203 DATA6 (io), 205 DATA7 (io), 211 GND (power), 220 VCCIO (power), 229 GND (power), 235 VCCIO (power), 236 VCCINT (power), 237 nSP (in), 239 NC, 240 NC
part B pins: 1 I/O (io), 2 I/O (io), 4 I/O (io), 6 I/O (io), 11 I/O (io), 12 I/O (io), 13 I/O (io), 15 I/O (io), 17 I/O (io), 22 I/O (io), 23 I/O (io), 24 I/O (io), 26 I/O (io), 28 I/O (io), 33 I/O (io), 35 I/O (io), 37 I/O (io), 38 I/O (io), 39 I/O (io), 44 I/O (io), 46 I/O (io), 48 I/O (io), 49 I/O (io), 50 I/O (io), 55 I/O (io), 57 I/O (io), 59 I/O (io), 60 I/O (io), 63 I/O (io), 67 I/O (io), 68 I/O (io), 69 I/O (io), 70 I/O (io), 71 I/O (io), 73 I/O (io), 74 I/O (io), 75 I/O (io), 76 I/O (io), 77 I/O (io), 78 I/O (io), 79 I/O (io), 80 I/O (io), 82 I/O (io), 83 I/O (io), 84 I/O (io), 85 I/O (io), 86 I/O (io), 87 I/O (io), 88 I/O (io), 89 I/O (io), 91 I/O (io), 92 I/O (io), 93 I/O (io), 94 I/O (io), 95 I/O (io), 96 I/O (io), 97 I/O (io), 98 I/O (io), 100 I/O (io), 101 I/O (io), 102 I/O (io), 103 I/O (io), 104 I/O (io), 105 I/O (io), 106 I/O (io), 107 I/O (io), 109 I/O (io), 110 I/O (io), 111 I/O (io), 112 I/O (io), 113 I/O (io), 118 I/O (io), 121 I/O (io), 122 I/O (io), 123 I/O (io), 124 I/O (io), 125 I/O (io), 126 I/O (io), 127 I/O (io), 131 I/O (io), 132 I/O (io), 134 I/O (io), 136 I/O (io), 138 I/O (io), 142 I/O (io), 143 I/O (io), 144 I/O (io), 145 I/O (io), 147 I/O (io), 148 I/O (io), 149 I/O (io), 152 I/O (io), 153 I/O (io), 154 I/O (io), 156 I/O (io), 157 I/O (io), 159 I/O (io), 163 I/O (io), 164 I/O (io), 165 I/O (io), 167 I/O (io), 168 I/O (io), 170 I/O (io), 174 I/O (io), 175 I/O (io), 176 I/O (io), 177 I/O (io), 178 I/O (io), 179 I/O (io), 180 I/O (io), 183 I/O (io), 188 I/O (io), 190 I/O (io), 192 I/O (io), 195 I/O (io), 197 I/O (io), 199 I/O (io), 201 I/O (io), 204 I/O (io), 206 I/O (io), 207 I/O (io), 208 I/O (io), 209 I/O (io), 210 I/O (io), 212 I/O (io), 213 I/O (io), 214 I/O (io), 215 I/O (io), 216 I/O (io), 217 I/O (io), 218 I/O (io), 219 I/O (io), 221 I/O (io), 222 I/O (io), 223 I/O (io), 224 I/O (io), 225 I/O (io), 226 I/O (io), 227 I/O (io), 228 I/O (io), 230 I/O (io), 231 I/O (io), 232 I/O (io), 233 I/O (io), 234 I/O (io), 238 I/O (io)

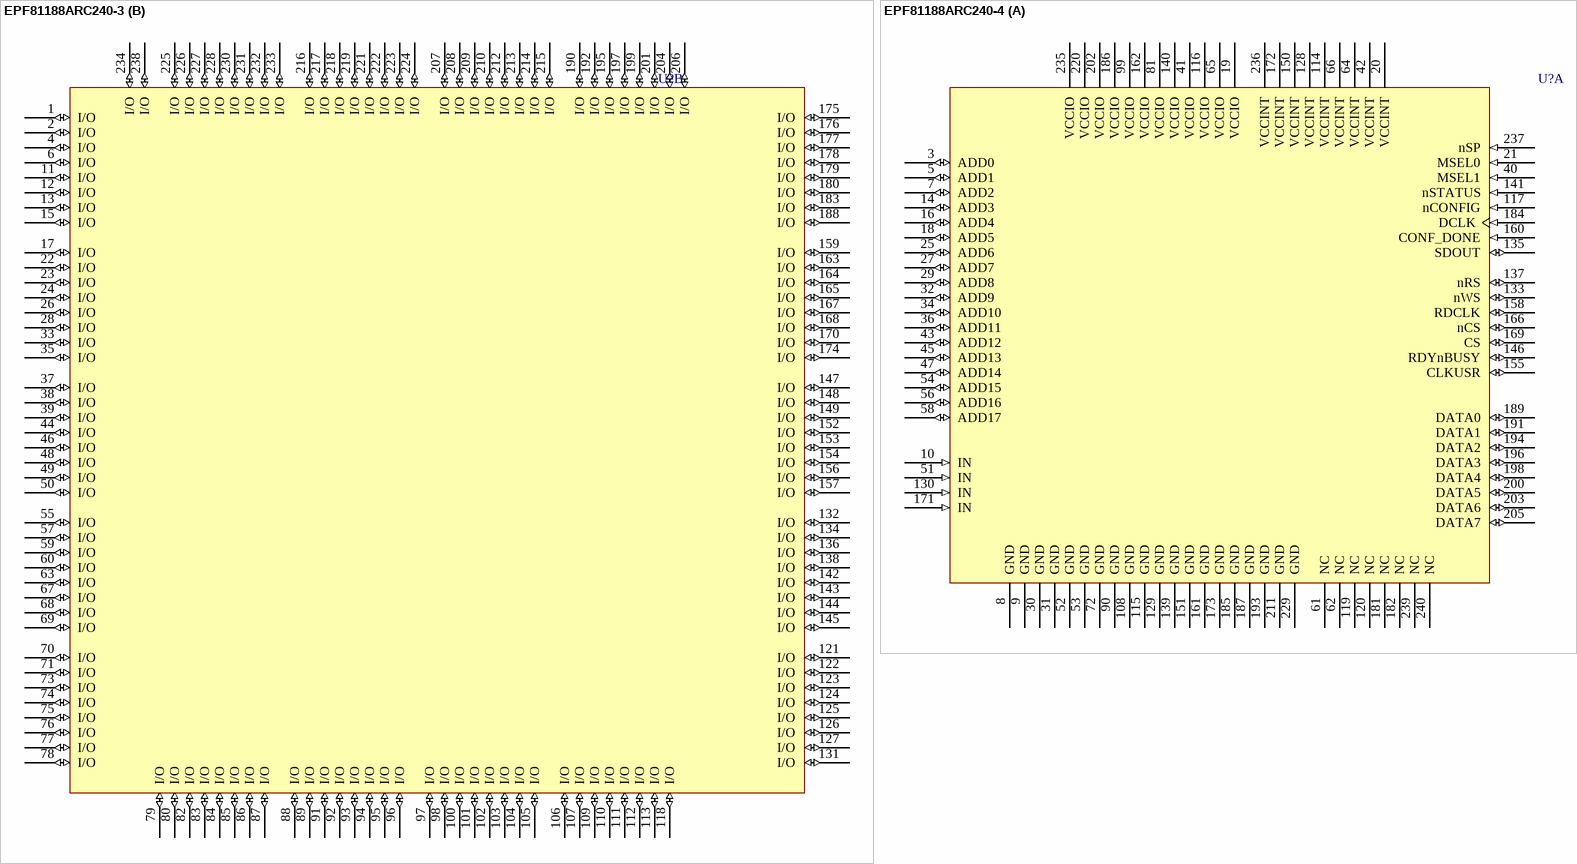
[diagram p25: symbols EPF81188ARC240-3 to EPF81188ARC240-4]

## EPF81188ARC240-3
designator U?
FLEX EPF81188A 5.0V PLD, 184 User IO Pins, 240-Pin RQFP, Speed Grade 3, Commercial Grade; Published: 24-Nov-2000; LatestRevisionDate: 13-Apr-2006; LatestRevisionNote: IPC-7351 Footprint Added.; DatasheetVersion: ver11.1, Jan-2003; PackageVersion: ver14.2, Oct-2005; PackageReference: RQFP240; Publisher: Altium Limited; PackageDescription: 240-Pin Power Quad Flat Pack (RQFP240); Code_JEDEC: MS-029-GA; ComponentLink1Description: Manufacturer Link; ComponentLink1URL: http://www.altera.com/products/devices/flex8k/f8k-index.html
footprint RQFP240_N (Shrink QFP, 240-Leads, Body 32x32mm, Pitch 0.5mm, IPC Medium Density)
footprint RQFP240_L (Shrink QFP, 240-Leads, Body 32x32mm, Pitch 0.5mm, IPC High Density)
footprint RQFP240_M (Shrink QFP, 240-Leads, Body 32x32mm, Pitch 0.5mm, IPC Low Density)
3D model EPF81188A-RQFP240 (240-Pin Power Quad Flat Pack (RQFP240))
part A pins: 3 ADD0 (io), 5 ADD1 (io), 7 ADD2 (io), 8 GND (power), 9 GND (power), 10 IN (in), 14 ADD3 (io), 16 ADD4 (io), 18 ADD5 (io), 19 VCCIO (power), 20 VCCINT (power), 21 MSEL0 (in), 25 ADD6 (io), 27 ADD7 (io), 29 ADD8 (io), 30 GND (power), 31 GND (power), 32 ADD9 (io), 34 ADD10 (io), 36 ADD11 (io), 40 MSEL1 (in), 41 VCCIO (power), 42 VCCINT (power), 43 ADD12 (io), 45 ADD13 (io), 47 ADD14 (io), 51 IN (in), 52 GND (power), 53 GND (power), 54 ADD15 (io), 56 ADD16 (io), 58 ADD17 (io), 61 NC, 62 NC, 64 VCCINT (power), 65 VCCIO (power), 66 VCCINT (power), 72 GND (power), 81 VCCIO (power), 90 GND (power), 99 VCCIO (power), 108 GND (power), 114 VCCINT (power), 115 GND (power), 116 VCCIO (power), 117 nCONFIG (in), 119 NC, 120 NC, 128 VCCINT (power), 129 GND (power), 130 IN (in), 133 nWS (io), 135 SDOUT (io), 137 nRS (io), 139 GND (power), 140 VCCIO (power), 141 nSTATUS (in), 146 RDYnBUSY (io), 150 VCCINT (power), 151 GND (power), 155 CLKUSR (io), 158 RDCLK (io), 160 CONF_DONE (in), 161 GND (power), 162 VCCIO (power), 166 nCS (io), 169 CS (io), 171 IN (in), 172 VCCINT (power), 173 GND (power), 181 NC, 182 NC, 184 DCLK (in), 185 GND (power), 186 VCCIO (power), 187 GND (power), 189 DATA0 (io), 191 DATA1 (io), 193 GND (power), 194 DATA2 (io), 196 DATA3 (io), 198 DATA4 (io), 200 DATA5 (io), 202 VCCIO (power), 203 DATA6 (io), 205 DATA7 (io), 211 GND (power), 220 VCCIO (power), 229 GND (power), 235 VCCIO (power), 236 VCCINT (power), 237 nSP (in), 239 NC, 240 NC
part B pins: 1 I/O (io), 2 I/O (io), 4 I/O (io), 6 I/O (io), 11 I/O (io), 12 I/O (io), 13 I/O (io), 15 I/O (io), 17 I/O (io), 22 I/O (io), 23 I/O (io), 24 I/O (io), 26 I/O (io), 28 I/O (io), 33 I/O (io), 35 I/O (io), 37 I/O (io), 38 I/O (io), 39 I/O (io), 44 I/O (io), 46 I/O (io), 48 I/O (io), 49 I/O (io), 50 I/O (io), 55 I/O (io), 57 I/O (io), 59 I/O (io), 60 I/O (io), 63 I/O (io), 67 I/O (io), 68 I/O (io), 69 I/O (io), 70 I/O (io), 71 I/O (io), 73 I/O (io), 74 I/O (io), 75 I/O (io), 76 I/O (io), 77 I/O (io), 78 I/O (io), 79 I/O (io), 80 I/O (io), 82 I/O (io), 83 I/O (io), 84 I/O (io), 85 I/O (io), 86 I/O (io), 87 I/O (io), 88 I/O (io), 89 I/O (io), 91 I/O (io), 92 I/O (io), 93 I/O (io), 94 I/O (io), 95 I/O (io), 96 I/O (io), 97 I/O (io), 98 I/O (io), 100 I/O (io), 101 I/O (io), 102 I/O (io), 103 I/O (io), 104 I/O (io), 105 I/O (io), 106 I/O (io), 107 I/O (io), 109 I/O (io), 110 I/O (io), 111 I/O (io), 112 I/O (io), 113 I/O (io), 118 I/O (io), 121 I/O (io), 122 I/O (io), 123 I/O (io), 124 I/O (io), 125 I/O (io), 126 I/O (io), 127 I/O (io), 131 I/O (io), 132 I/O (io), 134 I/O (io), 136 I/O (io), 138 I/O (io), 142 I/O (io), 143 I/O (io), 144 I/O (io), 145 I/O (io), 147 I/O (io), 148 I/O (io), 149 I/O (io), 152 I/O (io), 153 I/O (io), 154 I/O (io), 156 I/O (io), 157 I/O (io), 159 I/O (io), 163 I/O (io), 164 I/O (io), 165 I/O (io), 167 I/O (io), 168 I/O (io), 170 I/O (io), 174 I/O (io), 175 I/O (io), 176 I/O (io), 177 I/O (io), 178 I/O (io), 179 I/O (io), 180 I/O (io), 183 I/O (io), 188 I/O (io), 190 I/O (io), 192 I/O (io), 195 I/O (io), 197 I/O (io), 199 I/O (io), 201 I/O (io), 204 I/O (io), 206 I/O (io), 207 I/O (io), 208 I/O (io), 209 I/O (io), 210 I/O (io), 212 I/O (io), 213 I/O (io), 214 I/O (io), 215 I/O (io), 216 I/O (io), 217 I/O (io), 218 I/O (io), 219 I/O (io), 221 I/O (io), 222 I/O (io), 223 I/O (io), 224 I/O (io), 225 I/O (io), 226 I/O (io), 227 I/O (io), 228 I/O (io), 230 I/O (io), 231 I/O (io), 232 I/O (io), 233 I/O (io), 234 I/O (io), 238 I/O (io)

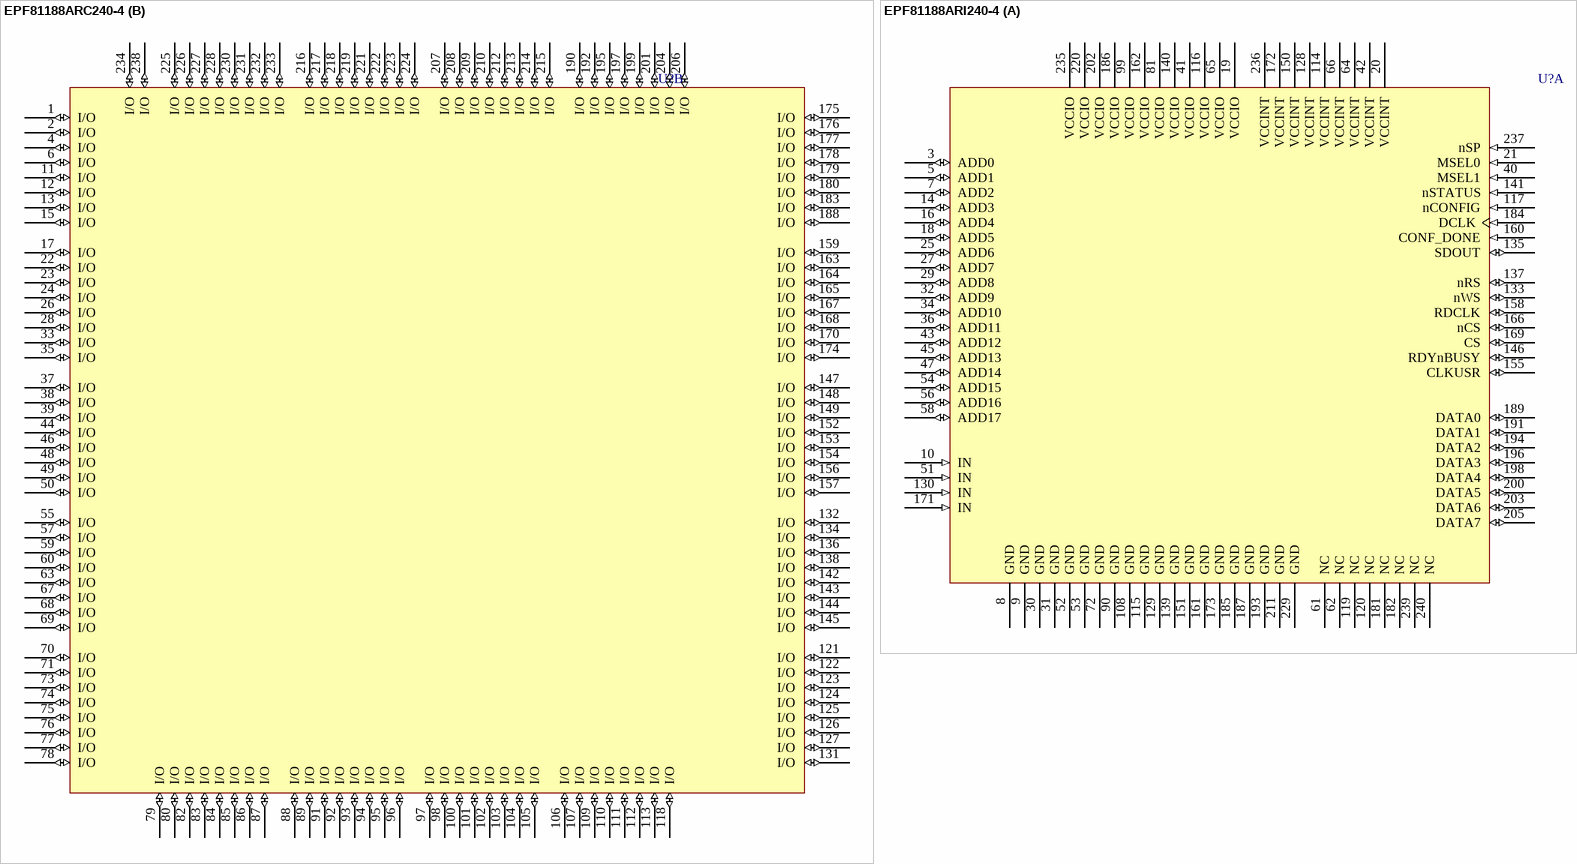
[diagram p26: symbols EPF81188ARC240-4 to EPF81188ARI240-4]

## EPF81188ARC240-4
designator U?
FLEX EPF81188A 5.0V PLD, 184 User IO Pins, 240-Pin RQFP, Speed Grade 4, Commercial Grade; Published: 24-Nov-2000; LatestRevisionDate: 13-Apr-2006; LatestRevisionNote: IPC-7351 Footprint Added.; DatasheetVersion: ver11.1, Jan-2003; PackageVersion: ver14.2, Oct-2005; PackageReference: RQFP240; Publisher: Altium Limited; PackageDescription: 240-Pin Power Quad Flat Pack (RQFP240); Code_JEDEC: MS-029-GA; ComponentLink1Description: Manufacturer Link; ComponentLink1URL: http://www.altera.com/products/devices/flex8k/f8k-index.html
footprint RQFP240_N (Shrink QFP, 240-Leads, Body 32x32mm, Pitch 0.5mm, IPC Medium Density)
footprint RQFP240_L (Shrink QFP, 240-Leads, Body 32x32mm, Pitch 0.5mm, IPC High Density)
footprint RQFP240_M (Shrink QFP, 240-Leads, Body 32x32mm, Pitch 0.5mm, IPC Low Density)
3D model EPF81188A-RQFP240 (240-Pin Power Quad Flat Pack (RQFP240))
part A pins: 3 ADD0 (io), 5 ADD1 (io), 7 ADD2 (io), 8 GND (power), 9 GND (power), 10 IN (in), 14 ADD3 (io), 16 ADD4 (io), 18 ADD5 (io), 19 VCCIO (power), 20 VCCINT (power), 21 MSEL0 (in), 25 ADD6 (io), 27 ADD7 (io), 29 ADD8 (io), 30 GND (power), 31 GND (power), 32 ADD9 (io), 34 ADD10 (io), 36 ADD11 (io), 40 MSEL1 (in), 41 VCCIO (power), 42 VCCINT (power), 43 ADD12 (io), 45 ADD13 (io), 47 ADD14 (io), 51 IN (in), 52 GND (power), 53 GND (power), 54 ADD15 (io), 56 ADD16 (io), 58 ADD17 (io), 61 NC, 62 NC, 64 VCCINT (power), 65 VCCIO (power), 66 VCCINT (power), 72 GND (power), 81 VCCIO (power), 90 GND (power), 99 VCCIO (power), 108 GND (power), 114 VCCINT (power), 115 GND (power), 116 VCCIO (power), 117 nCONFIG (in), 119 NC, 120 NC, 128 VCCINT (power), 129 GND (power), 130 IN (in), 133 nWS (io), 135 SDOUT (io), 137 nRS (io), 139 GND (power), 140 VCCIO (power), 141 nSTATUS (in), 146 RDYnBUSY (io), 150 VCCINT (power), 151 GND (power), 155 CLKUSR (io), 158 RDCLK (io), 160 CONF_DONE (in), 161 GND (power), 162 VCCIO (power), 166 nCS (io), 169 CS (io), 171 IN (in), 172 VCCINT (power), 173 GND (power), 181 NC, 182 NC, 184 DCLK (in), 185 GND (power), 186 VCCIO (power), 187 GND (power), 189 DATA0 (io), 191 DATA1 (io), 193 GND (power), 194 DATA2 (io), 196 DATA3 (io), 198 DATA4 (io), 200 DATA5 (io), 202 VCCIO (power), 203 DATA6 (io), 205 DATA7 (io), 211 GND (power), 220 VCCIO (power), 229 GND (power), 235 VCCIO (power), 236 VCCINT (power), 237 nSP (in), 239 NC, 240 NC
part B pins: 1 I/O (io), 2 I/O (io), 4 I/O (io), 6 I/O (io), 11 I/O (io), 12 I/O (io), 13 I/O (io), 15 I/O (io), 17 I/O (io), 22 I/O (io), 23 I/O (io), 24 I/O (io), 26 I/O (io), 28 I/O (io), 33 I/O (io), 35 I/O (io), 37 I/O (io), 38 I/O (io), 39 I/O (io), 44 I/O (io), 46 I/O (io), 48 I/O (io), 49 I/O (io), 50 I/O (io), 55 I/O (io), 57 I/O (io), 59 I/O (io), 60 I/O (io), 63 I/O (io), 67 I/O (io), 68 I/O (io), 69 I/O (io), 70 I/O (io), 71 I/O (io), 73 I/O (io), 74 I/O (io), 75 I/O (io), 76 I/O (io), 77 I/O (io), 78 I/O (io), 79 I/O (io), 80 I/O (io), 82 I/O (io), 83 I/O (io), 84 I/O (io), 85 I/O (io), 86 I/O (io), 87 I/O (io), 88 I/O (io), 89 I/O (io), 91 I/O (io), 92 I/O (io), 93 I/O (io), 94 I/O (io), 95 I/O (io), 96 I/O (io), 97 I/O (io), 98 I/O (io), 100 I/O (io), 101 I/O (io), 102 I/O (io), 103 I/O (io), 104 I/O (io), 105 I/O (io), 106 I/O (io), 107 I/O (io), 109 I/O (io), 110 I/O (io), 111 I/O (io), 112 I/O (io), 113 I/O (io), 118 I/O (io), 121 I/O (io), 122 I/O (io), 123 I/O (io), 124 I/O (io), 125 I/O (io), 126 I/O (io), 127 I/O (io), 131 I/O (io), 132 I/O (io), 134 I/O (io), 136 I/O (io), 138 I/O (io), 142 I/O (io), 143 I/O (io), 144 I/O (io), 145 I/O (io), 147 I/O (io), 148 I/O (io), 149 I/O (io), 152 I/O (io), 153 I/O (io), 154 I/O (io), 156 I/O (io), 157 I/O (io), 159 I/O (io), 163 I/O (io), 164 I/O (io), 165 I/O (io), 167 I/O (io), 168 I/O (io), 170 I/O (io), 174 I/O (io), 175 I/O (io), 176 I/O (io), 177 I/O (io), 178 I/O (io), 179 I/O (io), 180 I/O (io), 183 I/O (io), 188 I/O (io), 190 I/O (io), 192 I/O (io), 195 I/O (io), 197 I/O (io), 199 I/O (io), 201 I/O (io), 204 I/O (io), 206 I/O (io), 207 I/O (io), 208 I/O (io), 209 I/O (io), 210 I/O (io), 212 I/O (io), 213 I/O (io), 214 I/O (io), 215 I/O (io), 216 I/O (io), 217 I/O (io), 218 I/O (io), 219 I/O (io), 221 I/O (io), 222 I/O (io), 223 I/O (io), 224 I/O (io), 225 I/O (io), 226 I/O (io), 227 I/O (io), 228 I/O (io), 230 I/O (io), 231 I/O (io), 232 I/O (io), 233 I/O (io), 234 I/O (io), 238 I/O (io)

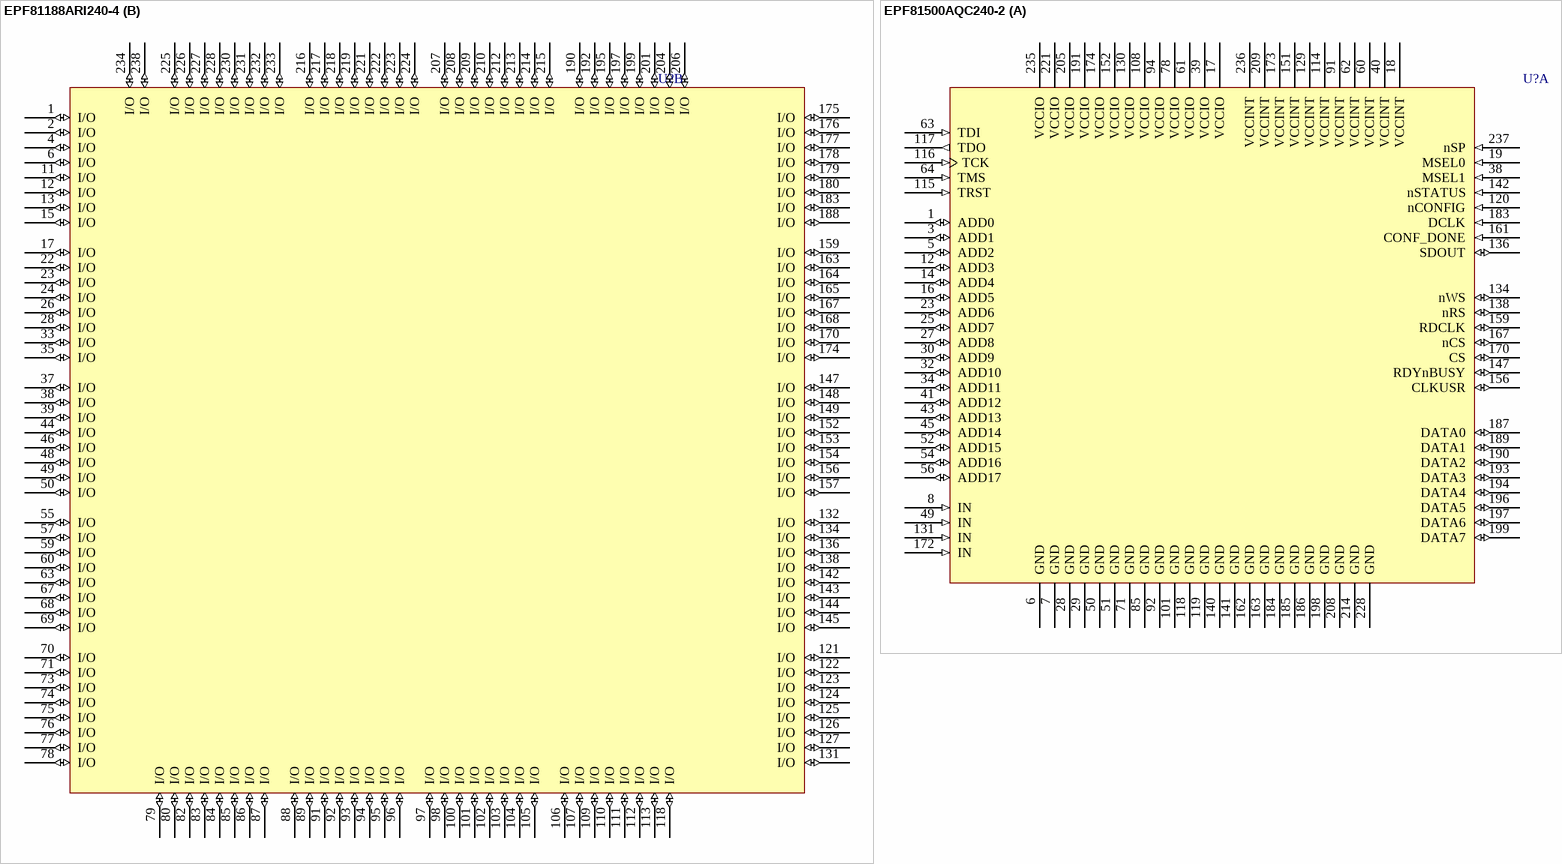
[diagram p27: symbols EPF81188ARI240-4 to EPF81500AQC240-2]

## EPF81188ARI240-4
designator U?
FLEX EPF81188A 5.0V PLD, 184 User IO Pins, 240-Pin RQFP, Speed Grade 4, Industrial Grade; Published: 24-Nov-2000; LatestRevisionDate: 13-Apr-2006; LatestRevisionNote: IPC-7351 Footprint Added.; DatasheetVersion: ver11.1, Jan-2003; PackageVersion: ver14.2, Oct-2005; PackageReference: RQFP240; Publisher: Altium Limited; PackageDescription: 240-Pin Power Quad Flat Pack (RQFP240); Code_JEDEC: MS-029-GA; ComponentLink1Description: Manufacturer Link; ComponentLink1URL: http://www.altera.com/products/devices/flex8k/f8k-index.html
footprint RQFP240_N (Shrink QFP, 240-Leads, Body 32x32mm, Pitch 0.5mm, IPC Medium Density)
footprint RQFP240_L (Shrink QFP, 240-Leads, Body 32x32mm, Pitch 0.5mm, IPC High Density)
footprint RQFP240_M (Shrink QFP, 240-Leads, Body 32x32mm, Pitch 0.5mm, IPC Low Density)
3D model EPF81188A-RQFP240 (240-Pin Power Quad Flat Pack (RQFP240))
part A pins: 3 ADD0 (io), 5 ADD1 (io), 7 ADD2 (io), 8 GND (power), 9 GND (power), 10 IN (in), 14 ADD3 (io), 16 ADD4 (io), 18 ADD5 (io), 19 VCCIO (power), 20 VCCINT (power), 21 MSEL0 (in), 25 ADD6 (io), 27 ADD7 (io), 29 ADD8 (io), 30 GND (power), 31 GND (power), 32 ADD9 (io), 34 ADD10 (io), 36 ADD11 (io), 40 MSEL1 (in), 41 VCCIO (power), 42 VCCINT (power), 43 ADD12 (io), 45 ADD13 (io), 47 ADD14 (io), 51 IN (in), 52 GND (power), 53 GND (power), 54 ADD15 (io), 56 ADD16 (io), 58 ADD17 (io), 61 NC, 62 NC, 64 VCCINT (power), 65 VCCIO (power), 66 VCCINT (power), 72 GND (power), 81 VCCIO (power), 90 GND (power), 99 VCCIO (power), 108 GND (power), 114 VCCINT (power), 115 GND (power), 116 VCCIO (power), 117 nCONFIG (in), 119 NC, 120 NC, 128 VCCINT (power), 129 GND (power), 130 IN (in), 133 nWS (io), 135 SDOUT (io), 137 nRS (io), 139 GND (power), 140 VCCIO (power), 141 nSTATUS (in), 146 RDYnBUSY (io), 150 VCCINT (power), 151 GND (power), 155 CLKUSR (io), 158 RDCLK (io), 160 CONF_DONE (in), 161 GND (power), 162 VCCIO (power), 166 nCS (io), 169 CS (io), 171 IN (in), 172 VCCINT (power), 173 GND (power), 181 NC, 182 NC, 184 DCLK (in), 185 GND (power), 186 VCCIO (power), 187 GND (power), 189 DATA0 (io), 191 DATA1 (io), 193 GND (power), 194 DATA2 (io), 196 DATA3 (io), 198 DATA4 (io), 200 DATA5 (io), 202 VCCIO (power), 203 DATA6 (io), 205 DATA7 (io), 211 GND (power), 220 VCCIO (power), 229 GND (power), 235 VCCIO (power), 236 VCCINT (power), 237 nSP (in), 239 NC, 240 NC
part B pins: 1 I/O (io), 2 I/O (io), 4 I/O (io), 6 I/O (io), 11 I/O (io), 12 I/O (io), 13 I/O (io), 15 I/O (io), 17 I/O (io), 22 I/O (io), 23 I/O (io), 24 I/O (io), 26 I/O (io), 28 I/O (io), 33 I/O (io), 35 I/O (io), 37 I/O (io), 38 I/O (io), 39 I/O (io), 44 I/O (io), 46 I/O (io), 48 I/O (io), 49 I/O (io), 50 I/O (io), 55 I/O (io), 57 I/O (io), 59 I/O (io), 60 I/O (io), 63 I/O (io), 67 I/O (io), 68 I/O (io), 69 I/O (io), 70 I/O (io), 71 I/O (io), 73 I/O (io), 74 I/O (io), 75 I/O (io), 76 I/O (io), 77 I/O (io), 78 I/O (io), 79 I/O (io), 80 I/O (io), 82 I/O (io), 83 I/O (io), 84 I/O (io), 85 I/O (io), 86 I/O (io), 87 I/O (io), 88 I/O (io), 89 I/O (io), 91 I/O (io), 92 I/O (io), 93 I/O (io), 94 I/O (io), 95 I/O (io), 96 I/O (io), 97 I/O (io), 98 I/O (io), 100 I/O (io), 101 I/O (io), 102 I/O (io), 103 I/O (io), 104 I/O (io), 105 I/O (io), 106 I/O (io), 107 I/O (io), 109 I/O (io), 110 I/O (io), 111 I/O (io), 112 I/O (io), 113 I/O (io), 118 I/O (io), 121 I/O (io), 122 I/O (io), 123 I/O (io), 124 I/O (io), 125 I/O (io), 126 I/O (io), 127 I/O (io), 131 I/O (io), 132 I/O (io), 134 I/O (io), 136 I/O (io), 138 I/O (io), 142 I/O (io), 143 I/O (io), 144 I/O (io), 145 I/O (io), 147 I/O (io), 148 I/O (io), 149 I/O (io), 152 I/O (io), 153 I/O (io), 154 I/O (io), 156 I/O (io), 157 I/O (io), 159 I/O (io), 163 I/O (io), 164 I/O (io), 165 I/O (io), 167 I/O (io), 168 I/O (io), 170 I/O (io), 174 I/O (io), 175 I/O (io), 176 I/O (io), 177 I/O (io), 178 I/O (io), 179 I/O (io), 180 I/O (io), 183 I/O (io), 188 I/O (io), 190 I/O (io), 192 I/O (io), 195 I/O (io), 197 I/O (io), 199 I/O (io), 201 I/O (io), 204 I/O (io), 206 I/O (io), 207 I/O (io), 208 I/O (io), 209 I/O (io), 210 I/O (io), 212 I/O (io), 213 I/O (io), 214 I/O (io), 215 I/O (io), 216 I/O (io), 217 I/O (io), 218 I/O (io), 219 I/O (io), 221 I/O (io), 222 I/O (io), 223 I/O (io), 224 I/O (io), 225 I/O (io), 226 I/O (io), 227 I/O (io), 228 I/O (io), 230 I/O (io), 231 I/O (io), 232 I/O (io), 233 I/O (io), 234 I/O (io), 238 I/O (io)

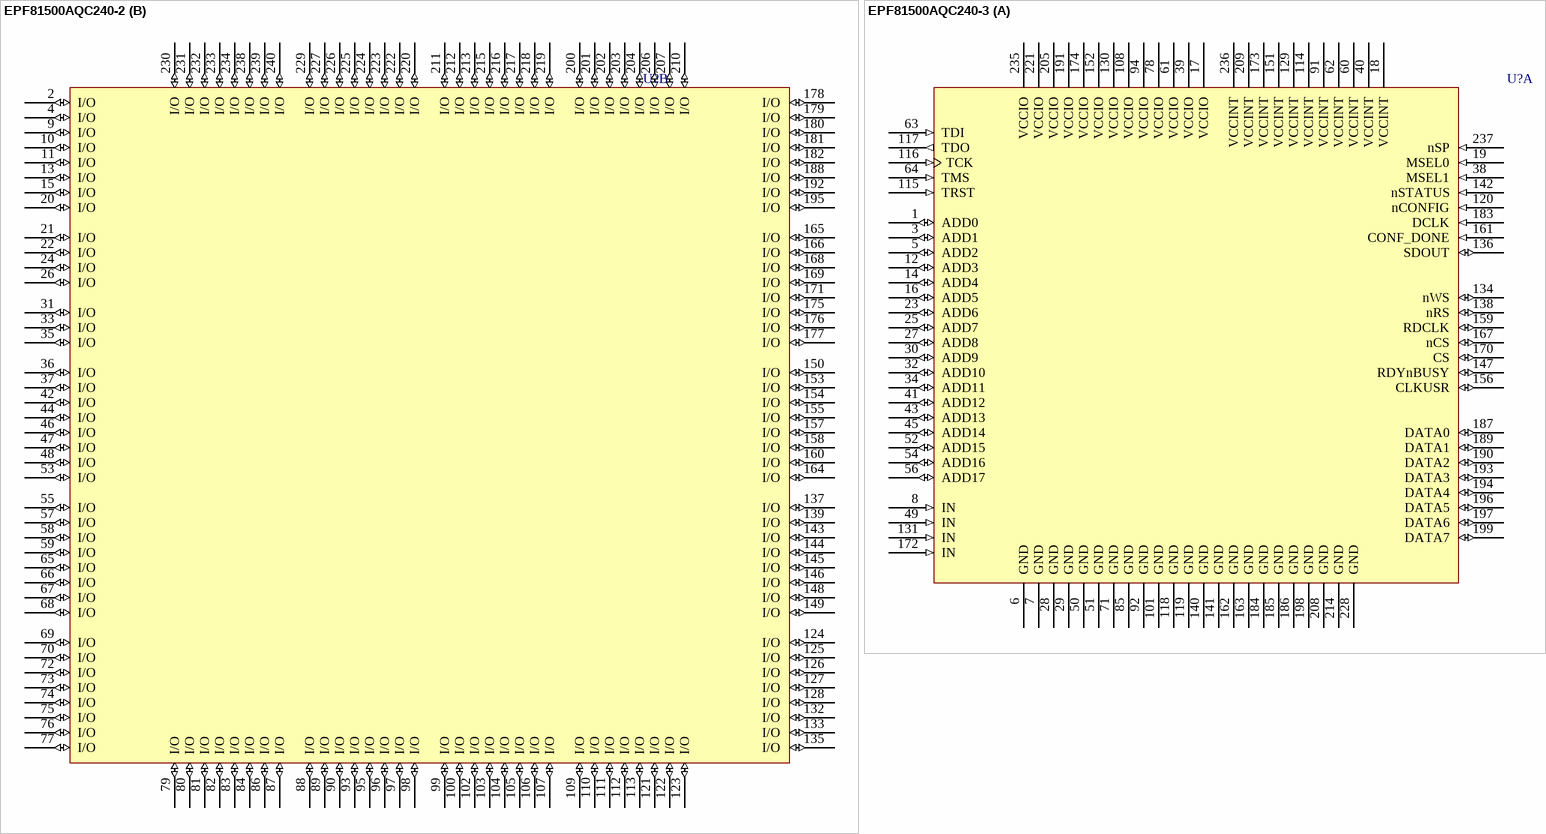
[diagram p28: symbols EPF81500AQC240-2 to EPF81500AQC240-3]

## EPF81500AQC240-2
designator U?
FLEX EPF81500A 5.0V PLD, 181 User IO Pins, 240-Pin PQFP, Speed Grade 2, Commercial Grade; Published: 24-Nov-2000; LatestRevisionDate: 13-Apr-2006; LatestRevisionNote: IPC-7351 Footprint Added.; DatasheetVersion: ver11.1, Jan-2003; PackageVersion: ver15.4, Dec-2008; PackageReference: PQFP240; Publisher: Altium Limited; PackageDescription: 240-Pin Plastic Quad Flat Pack (PQFP240) - Wire Bond; Supplier 1: Digi-Key; Supplier Part Number 1: 544-2249-ND; Code_JEDEC: MS-029-GA; ComponentLink1Description: Manufacturer Link; ComponentLink1URL: http://www.altera.com/products/devices/flex8k/f8k-index.html; ComponentLink2Description: Datasheet; ComponentLink2URL: http://www.altera.com/literature/ds/dsf8k.pdf
footprint PQFP240_N (Shrink QFP, 240-Leads, Body 32x32mm, Pitch 0.5mm, IPC Medium Density)
footprint PQFP240_L (Shrink QFP, 240-Leads, Body 32x32mm, Pitch 0.5mm, IPC High Density)
footprint PQFP240_M (Shrink QFP, 240-Leads, Body 32x32mm, Pitch 0.5mm, IPC Low Density)
3D model EPF81500A-PQFP240 (240-Pin Plastic Quad Flat Pack (PQFP240) - Wire Bond)
part A pins: 1 ADD0 (io), 3 ADD1 (io), 5 ADD2 (io), 6 GND (power), 7 GND (power), 8 IN (in), 12 ADD3 (io), 14 ADD4 (io), 16 ADD5 (io), 17 VCCIO (power), 18 VCCINT (power), 19 MSEL0 (in), 23 ADD6 (io), 25 ADD7 (io), 27 ADD8 (io), 28 GND (power), 29 GND (power), 30 ADD9 (io), 32 ADD10 (io), 34 ADD11 (io), 38 MSEL1 (in), 39 VCCIO (power), 40 VCCINT (power), 41 ADD12 (io), 43 ADD13 (io), 45 ADD14 (io), 49 IN (in), 50 GND (power), 51 GND (power), 52 ADD15 (io), 54 ADD16 (io), 56 ADD17 (io), 60 VCCINT (power), 61 VCCIO (power), 62 VCCINT (power), 63 TDI (in), 64 TMS (in), 71 GND (power), 78 VCCIO (power), 85 GND (power), 91 VCCINT (power), 92 GND (power), 94 VCCIO (power), 101 GND (power), 108 VCCIO (power), 114 VCCINT (power), 115 TRST (in), 116 TCK (in), 117 TDO (out), 118 GND (power), 119 GND (power), 120 nCONFIG (in), 129 VCCINT (power), 130 VCCIO (power), 131 IN (in), 134 nWS (io), 136 SDOUT (io), 138 nRS (io), 140 GND (power), 141 GND (power), 142 nSTATUS (in), 147 RDYnBUSY (io), 151 VCCINT (power), 152 VCCIO (power), 156 CLKUSR (io), 159 RDCLK (io), 161 CONF_DONE (in), 162 GND (power), 163 GND (power), 167 nCS (io), 170 CS (io), 172 IN (in), 173 VCCINT (power), 174 VCCIO (power), 183 DCLK (in), 184 GND (power), 185 GND (power), 186 GND (power), 187 DATA0 (io), 189 DATA1 (io), 190 DATA2 (io), 191 VCCIO (power), 193 DATA3 (io), 194 DATA4 (io), 196 DATA5 (io), 197 DATA6 (io), 198 GND (power), 199 DATA7 (io), 205 VCCIO (power), 208 GND (power), 209 VCCINT (power), 214 GND (power), 221 VCCIO (power), 228 GND (power), 235 VCCIO (power), 236 VCCINT (power), 237 nSP (in)
part B pins: 2 I/O (io), 4 I/O (io), 9 I/O (io), 10 I/O (io), 11 I/O (io), 13 I/O (io), 15 I/O (io), 20 I/O (io), 21 I/O (io), 22 I/O (io), 24 I/O (io), 26 I/O (io), 31 I/O (io), 33 I/O (io), 35 I/O (io), 36 I/O (io), 37 I/O (io), 42 I/O (io), 44 I/O (io), 46 I/O (io), 47 I/O (io), 48 I/O (io), 53 I/O (io), 55 I/O (io), 57 I/O (io), 58 I/O (io), 59 I/O (io), 65 I/O (io), 66 I/O (io), 67 I/O (io), 68 I/O (io), 69 I/O (io), 70 I/O (io), 72 I/O (io), 73 I/O (io), 74 I/O (io), 75 I/O (io), 76 I/O (io), 77 I/O (io), 79 I/O (io), 80 I/O (io), 81 I/O (io), 82 I/O (io), 83 I/O (io), 84 I/O (io), 86 I/O (io), 87 I/O (io), 88 I/O (io), 89 I/O (io), 90 I/O (io), 93 I/O (io), 95 I/O (io), 96 I/O (io), 97 I/O (io), 98 I/O (io), 99 I/O (io), 100 I/O (io), 102 I/O (io), 103 I/O (io), 104 I/O (io), 105 I/O (io), 106 I/O (io), 107 I/O (io), 109 I/O (io), 110 I/O (io), 111 I/O (io), 112 I/O (io), 113 I/O (io), 121 I/O (io), 122 I/O (io), 123 I/O (io), 124 I/O (io), 125 I/O (io), 126 I/O (io), 127 I/O (io), 128 I/O (io), 132 I/O (io), 133 I/O (io), 135 I/O (io), 137 I/O (io), 139 I/O (io), 143 I/O (io), 144 I/O (io), 145 I/O (io), 146 I/O (io), 148 I/O (io), 149 I/O (io), 150 I/O (io), 153 I/O (io), 154 I/O (io), 155 I/O (io), 157 I/O (io), 158 I/O (io), 160 I/O (io), 164 I/O (io), 165 I/O (io), 166 I/O (io), 168 I/O (io), 169 I/O (io), 171 I/O (io), 175 I/O (io), 176 I/O (io), 177 I/O (io), 178 I/O (io), 179 I/O (io), 180 I/O (io), 181 I/O (io), 182 I/O (io), 188 I/O (io), 192 I/O (io), 195 I/O (io), 200 I/O (io), 201 I/O (io), 202 I/O (io), 203 I/O (io), 204 I/O (io), 206 I/O (io), 207 I/O (io), 210 I/O (io), 211 I/O (io), 212 I/O (io), 213 I/O (io), 215 I/O (io), 216 I/O (io), 217 I/O (io), 218 I/O (io), 219 I/O (io), 220 I/O (io), 222 I/O (io), 223 I/O (io), 224 I/O (io), 225 I/O (io), 226 I/O (io), 227 I/O (io), 229 I/O (io), 230 I/O (io), 231 I/O (io), 232 I/O (io), 233 I/O (io), 234 I/O (io), 238 I/O (io), 239 I/O (io), 240 I/O (io)

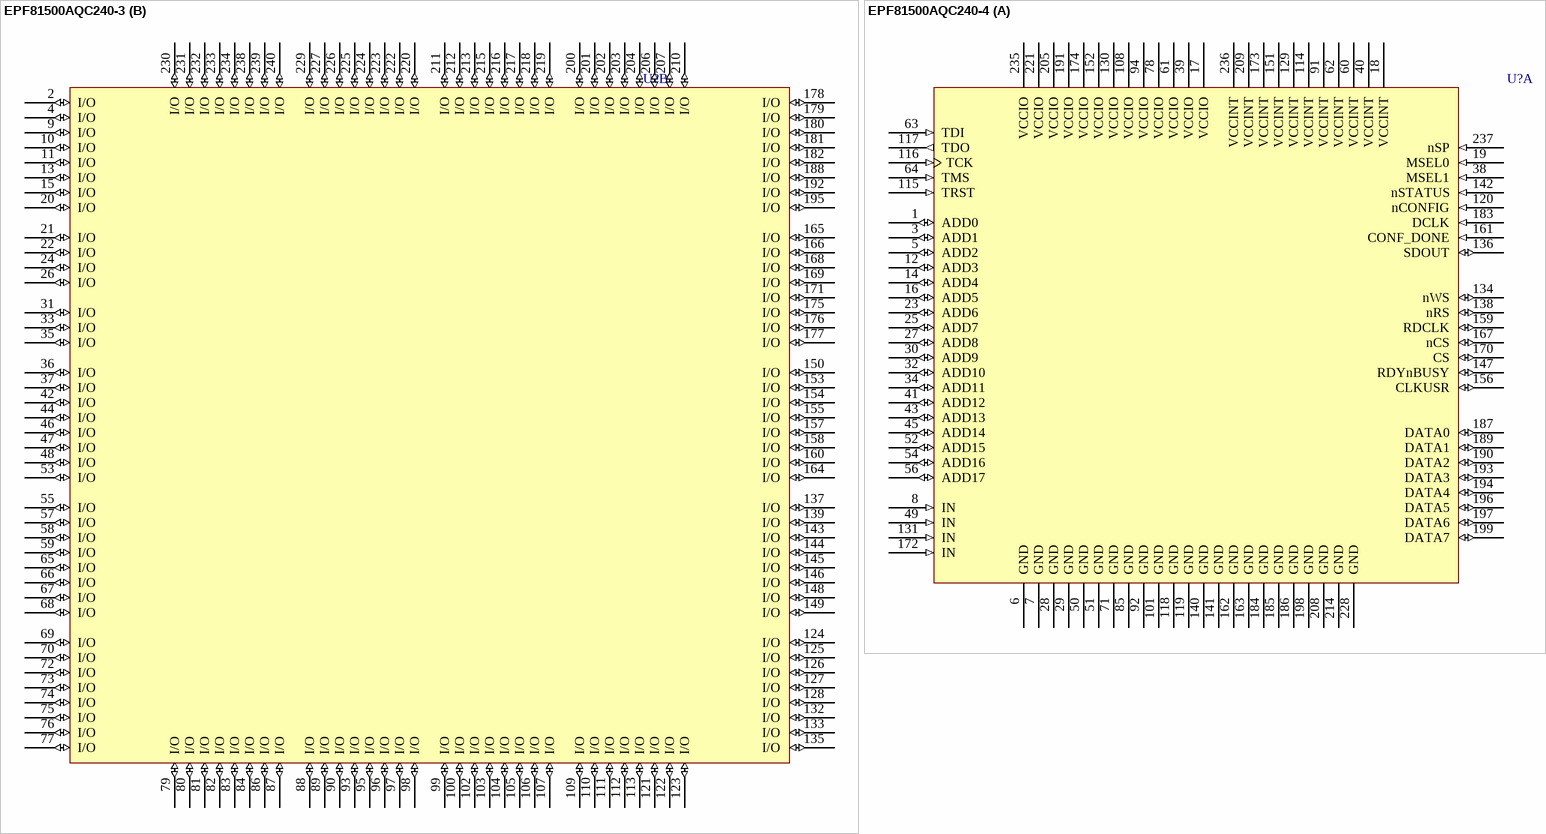
[diagram p29: symbols EPF81500AQC240-3 to EPF81500AQC240-4]

## EPF81500AQC240-3
designator U?
FLEX EPF81500A 5.0V PLD, 181 User IO Pins, 240-Pin PQFP, Speed Grade 3, Commercial Grade; Published: 24-Nov-2000; LatestRevisionDate: 13-Apr-2006; LatestRevisionNote: IPC-7351 Footprint Added.; DatasheetVersion: ver11.1, Jan-2003; PackageVersion: ver15.4, Dec-2008; PackageReference: PQFP240; Publisher: Altium Limited; PackageDescription: 240-Pin Plastic Quad Flat Pack (PQFP240) - Wire Bond; Code_JEDEC: MS-029-GA; ComponentLink1Description: Manufacturer Link; ComponentLink1URL: http://www.altera.com/products/devices/flex8k/f8k-index.html; ComponentLink2Description: Datasheet; ComponentLink2URL: http://www.altera.com/literature/ds/dsf8k.pdf
footprint PQFP240_N (Shrink QFP, 240-Leads, Body 32x32mm, Pitch 0.5mm, IPC Medium Density)
footprint PQFP240_L (Shrink QFP, 240-Leads, Body 32x32mm, Pitch 0.5mm, IPC High Density)
footprint PQFP240_M (Shrink QFP, 240-Leads, Body 32x32mm, Pitch 0.5mm, IPC Low Density)
3D model EPF81500A-PQFP240 (240-Pin Plastic Quad Flat Pack (PQFP240) - Wire Bond)
part A pins: 1 ADD0 (io), 3 ADD1 (io), 5 ADD2 (io), 6 GND (power), 7 GND (power), 8 IN (in), 12 ADD3 (io), 14 ADD4 (io), 16 ADD5 (io), 17 VCCIO (power), 18 VCCINT (power), 19 MSEL0 (in), 23 ADD6 (io), 25 ADD7 (io), 27 ADD8 (io), 28 GND (power), 29 GND (power), 30 ADD9 (io), 32 ADD10 (io), 34 ADD11 (io), 38 MSEL1 (in), 39 VCCIO (power), 40 VCCINT (power), 41 ADD12 (io), 43 ADD13 (io), 45 ADD14 (io), 49 IN (in), 50 GND (power), 51 GND (power), 52 ADD15 (io), 54 ADD16 (io), 56 ADD17 (io), 60 VCCINT (power), 61 VCCIO (power), 62 VCCINT (power), 63 TDI (in), 64 TMS (in), 71 GND (power), 78 VCCIO (power), 85 GND (power), 91 VCCINT (power), 92 GND (power), 94 VCCIO (power), 101 GND (power), 108 VCCIO (power), 114 VCCINT (power), 115 TRST (in), 116 TCK (in), 117 TDO (out), 118 GND (power), 119 GND (power), 120 nCONFIG (in), 129 VCCINT (power), 130 VCCIO (power), 131 IN (in), 134 nWS (io), 136 SDOUT (io), 138 nRS (io), 140 GND (power), 141 GND (power), 142 nSTATUS (in), 147 RDYnBUSY (io), 151 VCCINT (power), 152 VCCIO (power), 156 CLKUSR (io), 159 RDCLK (io), 161 CONF_DONE (in), 162 GND (power), 163 GND (power), 167 nCS (io), 170 CS (io), 172 IN (in), 173 VCCINT (power), 174 VCCIO (power), 183 DCLK (in), 184 GND (power), 185 GND (power), 186 GND (power), 187 DATA0 (io), 189 DATA1 (io), 190 DATA2 (io), 191 VCCIO (power), 193 DATA3 (io), 194 DATA4 (io), 196 DATA5 (io), 197 DATA6 (io), 198 GND (power), 199 DATA7 (io), 205 VCCIO (power), 208 GND (power), 209 VCCINT (power), 214 GND (power), 221 VCCIO (power), 228 GND (power), 235 VCCIO (power), 236 VCCINT (power), 237 nSP (in)
part B pins: 2 I/O (io), 4 I/O (io), 9 I/O (io), 10 I/O (io), 11 I/O (io), 13 I/O (io), 15 I/O (io), 20 I/O (io), 21 I/O (io), 22 I/O (io), 24 I/O (io), 26 I/O (io), 31 I/O (io), 33 I/O (io), 35 I/O (io), 36 I/O (io), 37 I/O (io), 42 I/O (io), 44 I/O (io), 46 I/O (io), 47 I/O (io), 48 I/O (io), 53 I/O (io), 55 I/O (io), 57 I/O (io), 58 I/O (io), 59 I/O (io), 65 I/O (io), 66 I/O (io), 67 I/O (io), 68 I/O (io), 69 I/O (io), 70 I/O (io), 72 I/O (io), 73 I/O (io), 74 I/O (io), 75 I/O (io), 76 I/O (io), 77 I/O (io), 79 I/O (io), 80 I/O (io), 81 I/O (io), 82 I/O (io), 83 I/O (io), 84 I/O (io), 86 I/O (io), 87 I/O (io), 88 I/O (io), 89 I/O (io), 90 I/O (io), 93 I/O (io), 95 I/O (io), 96 I/O (io), 97 I/O (io), 98 I/O (io), 99 I/O (io), 100 I/O (io), 102 I/O (io), 103 I/O (io), 104 I/O (io), 105 I/O (io), 106 I/O (io), 107 I/O (io), 109 I/O (io), 110 I/O (io), 111 I/O (io), 112 I/O (io), 113 I/O (io), 121 I/O (io), 122 I/O (io), 123 I/O (io), 124 I/O (io), 125 I/O (io), 126 I/O (io), 127 I/O (io), 128 I/O (io), 132 I/O (io), 133 I/O (io), 135 I/O (io), 137 I/O (io), 139 I/O (io), 143 I/O (io), 144 I/O (io), 145 I/O (io), 146 I/O (io), 148 I/O (io), 149 I/O (io), 150 I/O (io), 153 I/O (io), 154 I/O (io), 155 I/O (io), 157 I/O (io), 158 I/O (io), 160 I/O (io), 164 I/O (io), 165 I/O (io), 166 I/O (io), 168 I/O (io), 169 I/O (io), 171 I/O (io), 175 I/O (io), 176 I/O (io), 177 I/O (io), 178 I/O (io), 179 I/O (io), 180 I/O (io), 181 I/O (io), 182 I/O (io), 188 I/O (io), 192 I/O (io), 195 I/O (io), 200 I/O (io), 201 I/O (io), 202 I/O (io), 203 I/O (io), 204 I/O (io), 206 I/O (io), 207 I/O (io), 210 I/O (io), 211 I/O (io), 212 I/O (io), 213 I/O (io), 215 I/O (io), 216 I/O (io), 217 I/O (io), 218 I/O (io), 219 I/O (io), 220 I/O (io), 222 I/O (io), 223 I/O (io), 224 I/O (io), 225 I/O (io), 226 I/O (io), 227 I/O (io), 229 I/O (io), 230 I/O (io), 231 I/O (io), 232 I/O (io), 233 I/O (io), 234 I/O (io), 238 I/O (io), 239 I/O (io), 240 I/O (io)

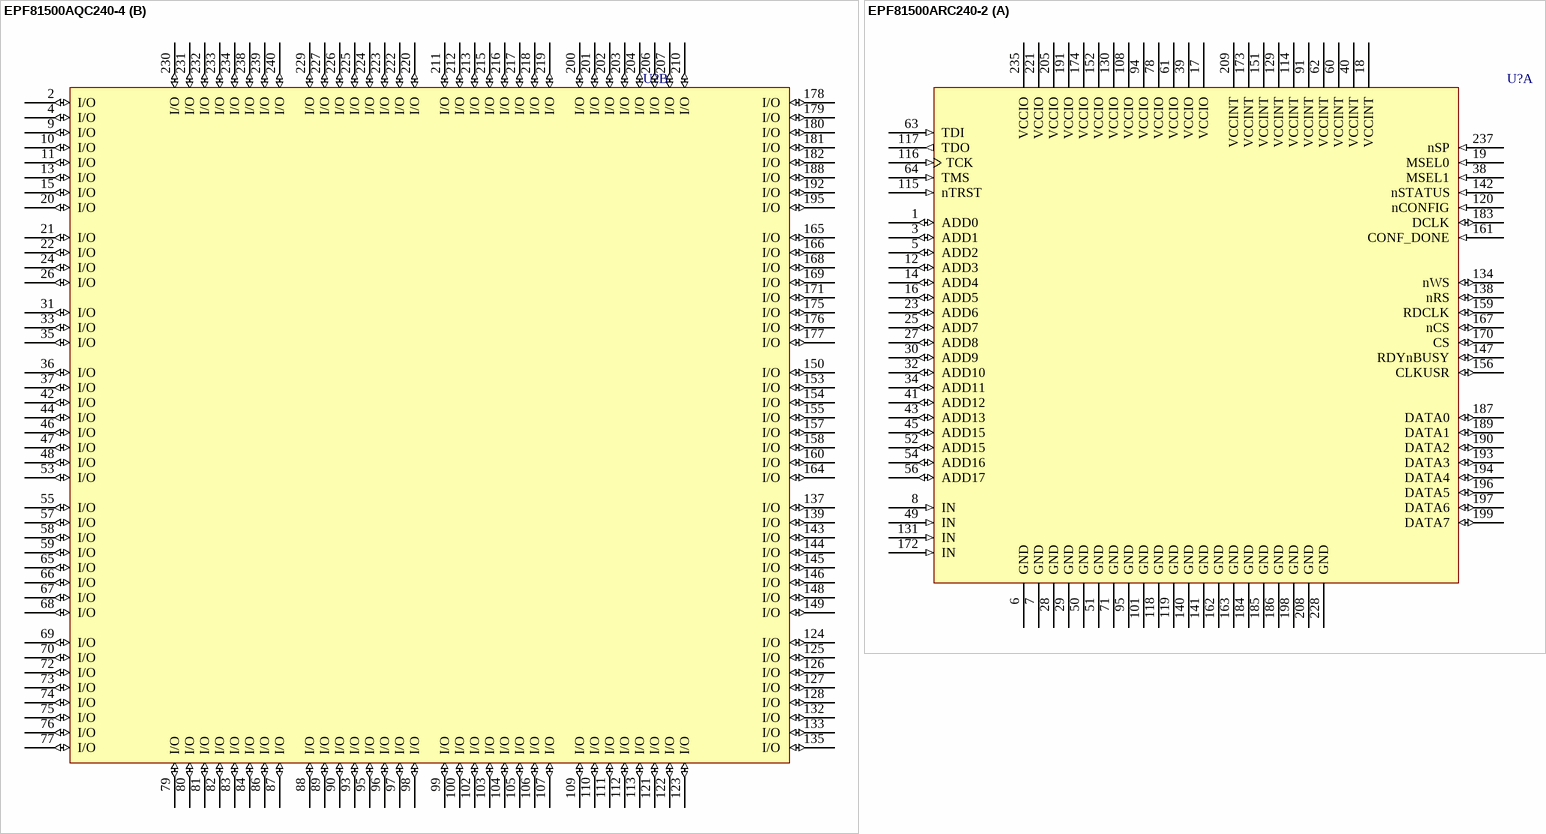
[diagram p30: symbols EPF81500AQC240-4 to EPF81500ARC240-2]